# Altium schematic symbol library Crazy_PCB.SchLib: 117 symbols
Pins are listed as number, name and electrical type; pins without a type are passive.

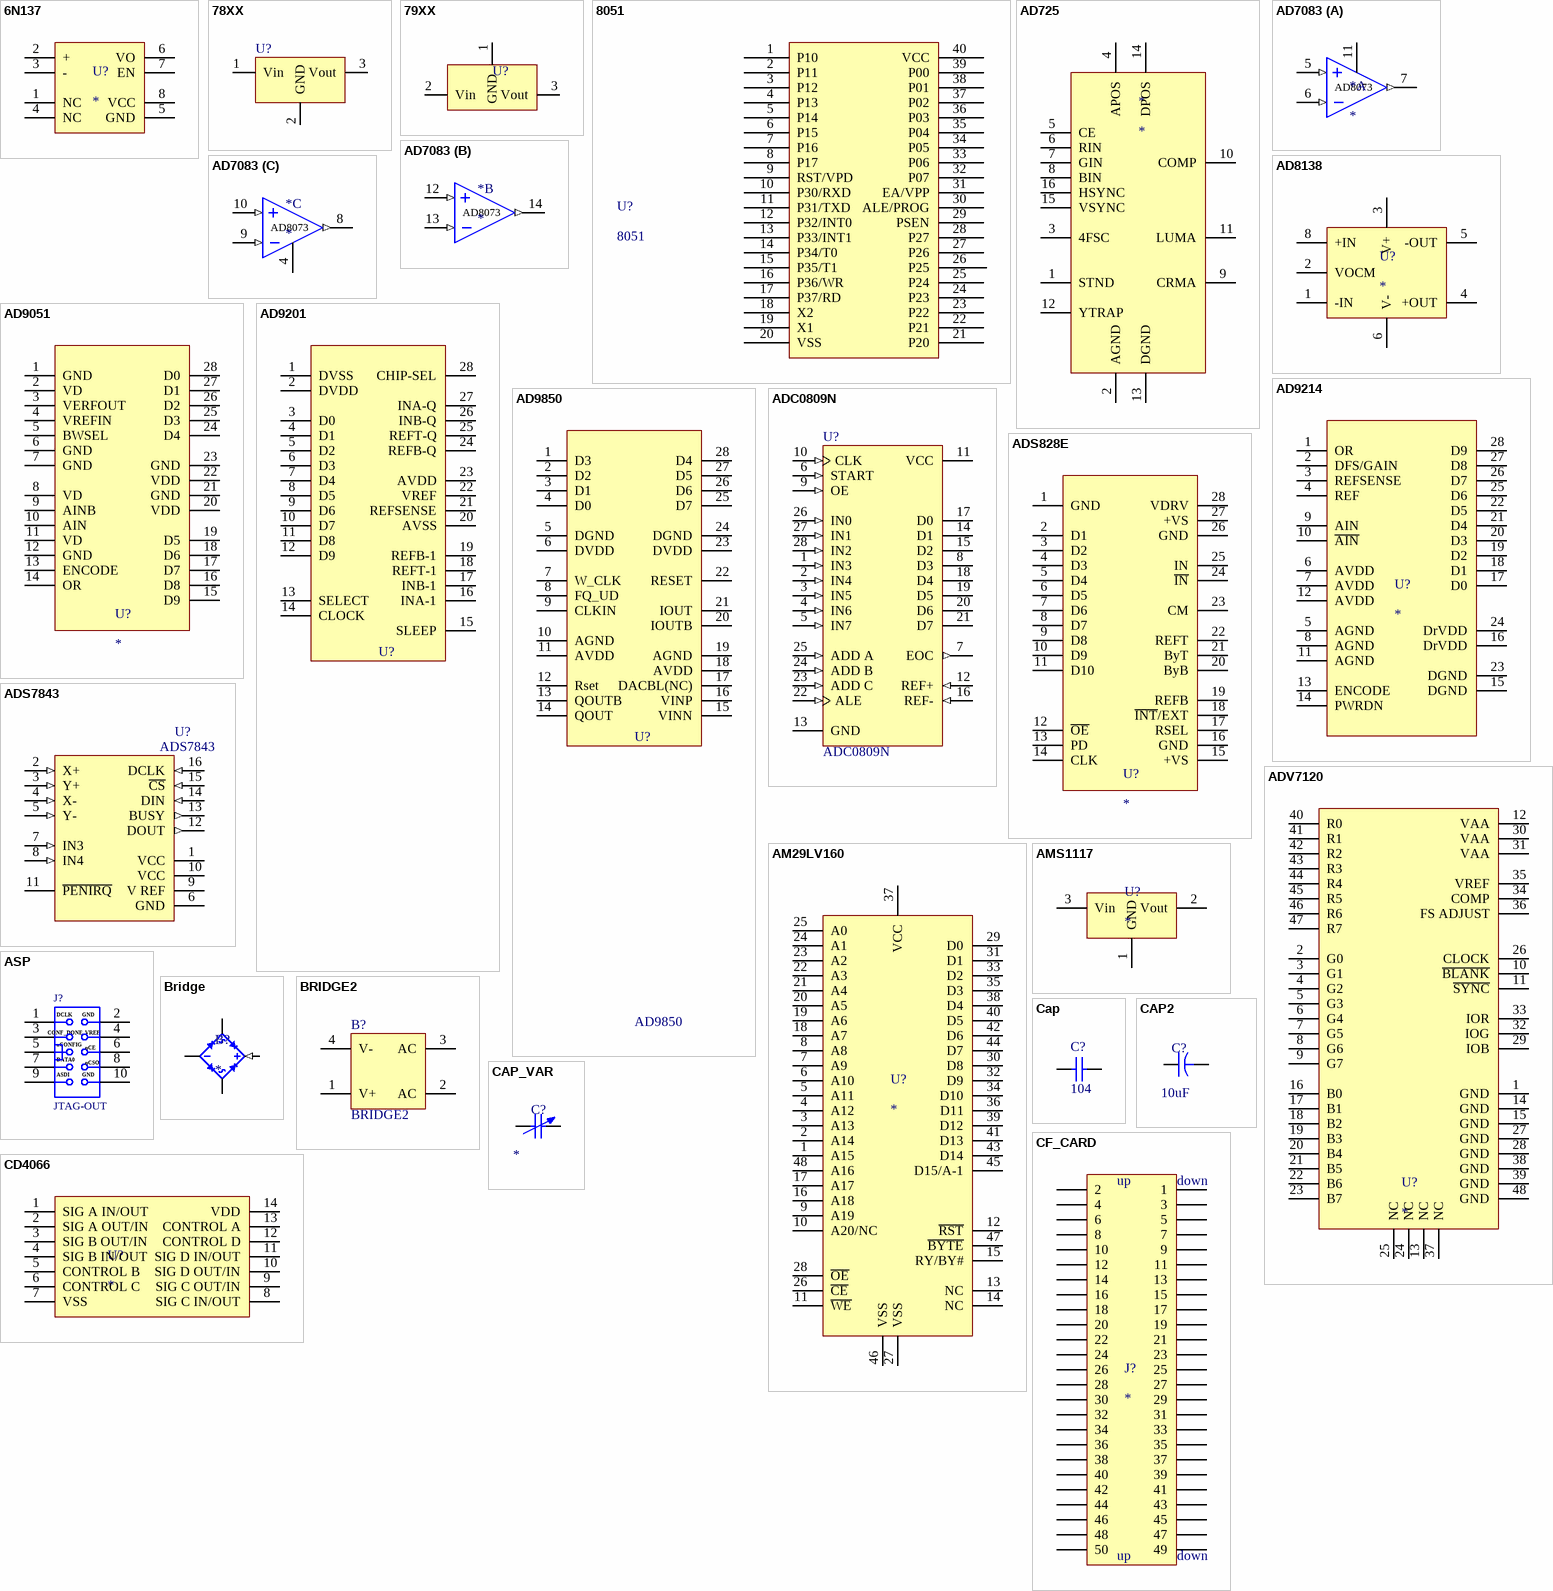
[diagram p0: symbols 6N137 to CF_CARD]

## 6N137
designator U?
footprint dip-8
pins: 1 NC, 2 +, 3 -, 4 NC, 5 GND, 6 VO, 7 EN, 8 VCC

## 78XX
designator U?  (value not drawn)
三端稳压器
footprint 78AND79XX
footprint TO-220
footprint LM_3
pins: 1 Vin, 2 GND, 3 Vout

## 79XX
designator U?  (value not drawn)
三端稳压器
footprint 78AND79XX
footprint LM_3
footprint TO-220
pins: 1 GND, 2 Vin, 3 Vout

## 8051
designator U?
MCU_P40
footprint 40P6_2 (Footprint not found)
footprint 40P6
pins: 1 P10, 2 P11, 3 P12, 4 P13, 5 P14, 6 P15, 7 P16, 8 P17, 9 RST/VPD, 10 P30/RXD, 11 P31/TXD, 12 P32/INT0, 13 P33/INT1, 14 P34/T0, 15 P35/T1, 16 P36/WR, 17 P37/RD, 18 X2, 19 X1, 20 VSS, 21 P20, 22 P21, 23 P22, 24 P23, 25 P24, 26 P25, 27 P26, 28 P27, 29 PSEN, 30 ALE/PROG, 31 EA/VPP, 32 P07, 33 P06, 34 P05, 35 P04, 36 P03, 37 P02, 38 P01, 39 P00, 40 VCC

## AD725
designator *
footprint soic16
pins: 1 STND, 2 AGND, 3 4FSC, 4 APOS, 5 CE, 6 RIN, 7 GIN, 8 BIN, 9 CRMA, 10 COMP, 11 LUMA, 12 YTRAP, 13 DGND, 14 DPOS, 15 VSYNC, 16 HSYNC

## AD7083
designator *
footprint SOIC14
part A pins: 5 +IN1 (in), 6 -IN1 (in), 7 OUT1 (out), 11 -VS (power)
part B pins: 12 +IN2 (in), 13 -IN2 (in), 14 OUT2 (out)
part C pins: 4 +VS (power), 8 OUT3 (out), 9 +IN3 (in), 10 +IN3 (in)
part A text: AD8073
part B text: AD8073
part C text: AD8073

## AD8138
designator U?
footprint r-8
pins: 1 -IN, 2 VOCM, 3 V+, 4 +OUT, 5 -OUT, 6 V-, 8 +IN

## AD9051
designator U?
footprint RS-28
pins: 1 GND, 2 VD, 3 VERFOUT, 4 VREFIN, 5 BWSEL, 6 GND, 7 GND, 8 VD, 9 AINB, 10 AIN, 11 VD, 12 GND, 13 ENCODE, 14 OR, 15 D9, 16 D8, 17 D7, 18 D6, 19 D5, 20 VDD, 21 GND, 22 VDD, 23 GND, 24 D4, 25 D3, 26 D2, 27 D1, 28 D0

## AD9201
designator U?
CMOS, 125MHz Complete DDS Synthesizer; Note: Pin 17 is unconnected for optimum performance; Published: 8-Jun-2000; LatestRevisionDate: 04-Mar-2005; LatestRevisionNote: Stylized 3D Model Added.; DatasheetVersion: Rev.A 1997; PackageVersion: revA, 1997; PackageReference: RS-28; Publisher: Altium Limited; PackageDescription: SSOP; 28 Leads; Body Width 5.3 mm; Pitch 0.65 mm; ComponentLink1Description: Manufacturer Link; ComponentLink1URL: http://www.analog.com/en/prod/0%2C2877%2CAD9850%2C00.html; ComponentLink2Description: Datasheet; ComponentLink2URL: http://www.analog.com/UploadedFiles/Data_Sheets/34008438159094AD9850_h.pdf
footprint RS-28
pins: 1 DVSS, 2 DVDD, 3 D0, 4 D1, 5 D2, 6 D3, 7 D4, 8 D5, 9 D6, 10 D7, 11 D8, 12 D9, 13 SELECT, 14 CLOCK, 15 SLEEP, 16 INA-1, 17 INB-1, 18 REFT-1, 19 REFB-1, 20 AVSS, 21 REFSENSE, 22 VREF, 23 AVDD, 24 REFB-Q, 25 REFT-Q, 26 INB-Q, 27 INA-Q, 28 CHIP-SEL

## AD9214
designator U?
footprint RS-28
pins: 1 OR, 2 DFS/GAIN, 3 REFSENSE, 4 REF, 5 AGND, 6 AVDD, 7 AVDD, 8 AGND, 9 AIN, 10 ~{AIN}, 11 AGND, 12 AVDD, 13 ENCODE, 14 PWRDN, 15 DGND, 16 DrVDD, 17 D0, 18 D1, 19 D2, 20 D3, 21 D4, 22 D5, 23 DGND, 24 DrVDD, 25 D6, 26 D7, 27 D8, 28 D9

## AD9850
designator U?
CMOS, 125MHz Complete DDS Synthesizer; Note: Pin 17 is unconnected for optimum performance; Published: 8-Jun-2000; LatestRevisionDate: 04-Mar-2005; LatestRevisionNote: Stylized 3D Model Added.; DatasheetVersion: Rev.A 1997; PackageVersion: revA, 1997; PackageReference: RS-28; Publisher: Altium Limited; PackageDescription: SSOP; 28 Leads; Body Width 5.3 mm; Pitch 0.65 mm; ComponentLink1Description: Manufacturer Link; ComponentLink1URL: http://www.analog.com/en/prod/0%2C2877%2CAD9850%2C00.html; ComponentLink2Description: Datasheet; ComponentLink2URL: http://www.analog.com/UploadedFiles/Data_Sheets/34008438159094AD9850_h.pdf
footprint ssop28
footprint rs-28
pins: 1 D3, 2 D2, 3 D1, 4 D0, 5 DGND, 6 DVDD, 7 W_CLK, 8 FQ_UD, 9 CLKIN, 10 AGND, 11 AVDD, 12 Rset, 13 QOUTB, 14 QOUT, 15 VINN, 16 VINP, 17 DACBL(NC), 18 AVDD, 19 AGND, 20 IOUTB, 21 IOUT, 22 RESET, 23 DVDD, 24 DGND, 25 D7, 26 D6, 27 D5, 28 D4

## ADC0809N
designator U?
CMOS Analog-to-Digital Converter with 8-Channel Multiplexer; ComponentAvailability: Obsolete; Published: 15-Apr-2002; LatestRevisionDate: 08-Jul-2005; LatestRevisionNote: Stylized 3D Model Added.; DatasheetVersion: May-1988; PackageVersion: Oct-1994; PackageReference: N028; Publisher: Altium Limited; PackageDescription: DIP; 28 Leads; Row Spacing 15.24 mm; Pitch 2.54 mm; ComponentLink1Description: Manufacturer Link; ComponentLink1URL: http://www.ti.com/
footprint N028 (DIP; 28 Leads; Row Spacing 15.24 mm; Pitch 2.54 mm)
3D model N028 (DIP; 28 Leads; Row Spacing 15.24 mm; Pitch 2.54 mm)
pins: 1 IN3 (in), 2 IN4 (in), 3 IN5 (in), 4 IN6 (in), 5 IN7 (in), 6 START (in), 7 EOC (out), 8 D3 (hiz), 9 OE (in), 10 CLK (in), 11 VCC (power), 12 REF+ (in), 13 GND (power), 14 D1 (hiz), 15 D2 (hiz), 16 REF- (in), 17 D0 (hiz), 18 D4 (hiz), 19 D5 (hiz), 20 D6 (hiz), 21 D7 (hiz), 22 ALE (in), 23 ADD C (in), 24 ADD B (in), 25 ADD A (in), 26 IN0 (in), 27 IN1 (in), 28 IN2 (in)

## ADS828E
designator U?
footprint RS-28
pins: 1 GND, 2 D1, 3 D2, 4 D3, 5 D4, 6 D5, 7 D6, 8 D7, 9 D8, 10 D9, 11 D10, 12 ~{OE}, 13 PD, 14 CLK, 15 +VS, 16 GND, 17 RSEL, 18 ~{INT}/EXT, 19 REFB, 20 ByB, 21 ByT, 22 REFT, 23 CM, 24 ~{IN}, 25 IN, 26 GND, 27 +VS, 28 VDRV

## ADS7843
designator U?
Touch Screen Controller
footprint TSSOP16
pins: 1 VCC, 2 X+ (in), 3 Y+ (in), 4 X- (in), 5 Y- (in), 6 GND (power), 7 IN3 (in), 8 IN4 (in), 9 V REF, 10 VCC, 11 ~{PENIRQ} (power), 12 DOUT (out), 13 BUSY (out), 14 DIN (in), 15 ~{CS} (in), 16 DCLK (in)

## ADV7120
designator U?
footprint tqfp48
pins: 1 GND, 2 G0, 3 G1, 4 G2, 5 G3, 6 G4, 7 G5, 8 G6, 9 G7, 10 ~{BLANK}, 11 ~{SYNC}, 12 VAA, 13 NC, 14 GND, 15 GND, 16 B0, 17 B1, 18 B2, 19 B3, 20 B4, 21 B5, 22 B6, 23 B7, 24 NC, 25 NC, 26 CLOCK, 27 GND, 28 GND, 29 IOB, 30 VAA, 31 VAA, 32 IOG, 33 IOR, 34 COMP, 35 VREF, 36 FS ADJUST, 37 NC, 38 GND, 39 GND, 40 R0, 41 R1, 42 R2, 43 R3, 44 R4, 45 R5, 46 R6, 47 R7, 48 GND

## AM29LV160
designator U?
footprint TSOP48
pins: 1 A15, 2 A14, 3 A13, 4 A12, 5 A11, 6 A10, 7 A9, 8 A8, 9 A19, 10 A20/NC, 11 ~{WE}, 12 ~{RST}, 13 NC, 14 NC, 15 RY/BY#, 16 A18, 17 A17, 18 A7, 19 A6, 20 A5, 21 A4, 22 A3, 23 A2, 24 A1, 25 A0, 26 ~{CE}, 27 VSS, 28 ~{OE}, 29 D0, 30 D8, 31 D1, 32 D9, 33 D2, 34 D10, 35 D3, 36 D11, 37 VCC, 38 D4, 39 D12, 40 D5, 41 D13, 42 D6, 43 D14, 44 D7, 45 D15/A-1, 46 VSS, 47 ~{BYTE}, 48 A16

## AMS1117
designator U?
3.3V电压转换器AMS1117
footprint SOT223 (SOT-223/SC-73; 4 Leads; Body 6.7 x 7.3 mm, inc. leads (LxW max))
pins: 1 GND, 2 Vout, 3 Vin

## ASP
designator J?, comment JTAG-OUT
接插件
footprint JTAG
pins: 1, 2, 3, 4, 5, 6, 7, 8, 9, 10
text: DCLK; GND; CONF_DONE; VREF; nCONFIG; nCE; DATA0; nCSO; ASDI

## Bridge
designator B?
footprint Bridge
pins: 1 + (in), 2 - (power), 3 AC (power), 4 AC (power)

## BRIDGE2
designator B?
Diode Bridge
footprint BRIDGE3a
footprint BRIDGE3A
pins: 1 V+, 2 AC, 3 AC, 4 V-
2 alternate drawings of the same symbol

## Cap
designator C?  value 104  (hidden comment: Cap)
Capacitor; Published: 8-Jun-2000; LatestRevisionDate: 17-Jul-2002; LatestRevisionNote: Re-released for DXP Platform.; PackageReference: RAD-0.3; Publisher: Altium Limited
footprint 0402 (Chip Capacitor; Body 1.0 x 0.5 mm (LxW typ))
footprint 0603_cap
footprint 0805_cap
pins: 1, 2

## CAP2
designator C?, comment vaule: 10uF  (hidden comment: CAP)
footprint CAP100
footprint 1000UF/16V
footprint 1812 (Chip Capacitor; Body 4.5 x 3.2 mm (LxW typ))
footprint cap220
footprint CAP470
footprint cap200_2
pins: 1, 2

## CAP_VAR
designator C?, comment cap  (value not drawn)
vaule: *
footprint CAP_VAR
pins: 1, 2

## CD4066
designator U?
footprint SOIC14
pins: 1 SIG A IN/OUT, 2 SIG A OUT/IN, 3 SIG B OUT/IN, 4 SIG B IN/OUT, 5 CONTROL B, 6 CONTROL C, 7 VSS, 8 SIG C IN/OUT, 9 SIG C OUT/IN, 10 SIG D OUT/IN, 11 SIG D IN/OUT, 12 CONTROL D, 13 CONTROL A, 14 VDD

## CF_CARD
designator J?
footprint CF_CARD
pins: 1, 2, 3, 4, 5, 6, 7, 8, 9, 10, 11, 12, 13, 14, 15, 16, 17, 18, 19, 20, 21, 22, 23, 24, 25, 26, 27, 28, 29, 30, 31, 32, 33, 34, 35, 36, 37, 38, 39, 40, 41, 42, 43, 44, 45, 46, 47, 48, 49, 50
text: up; down

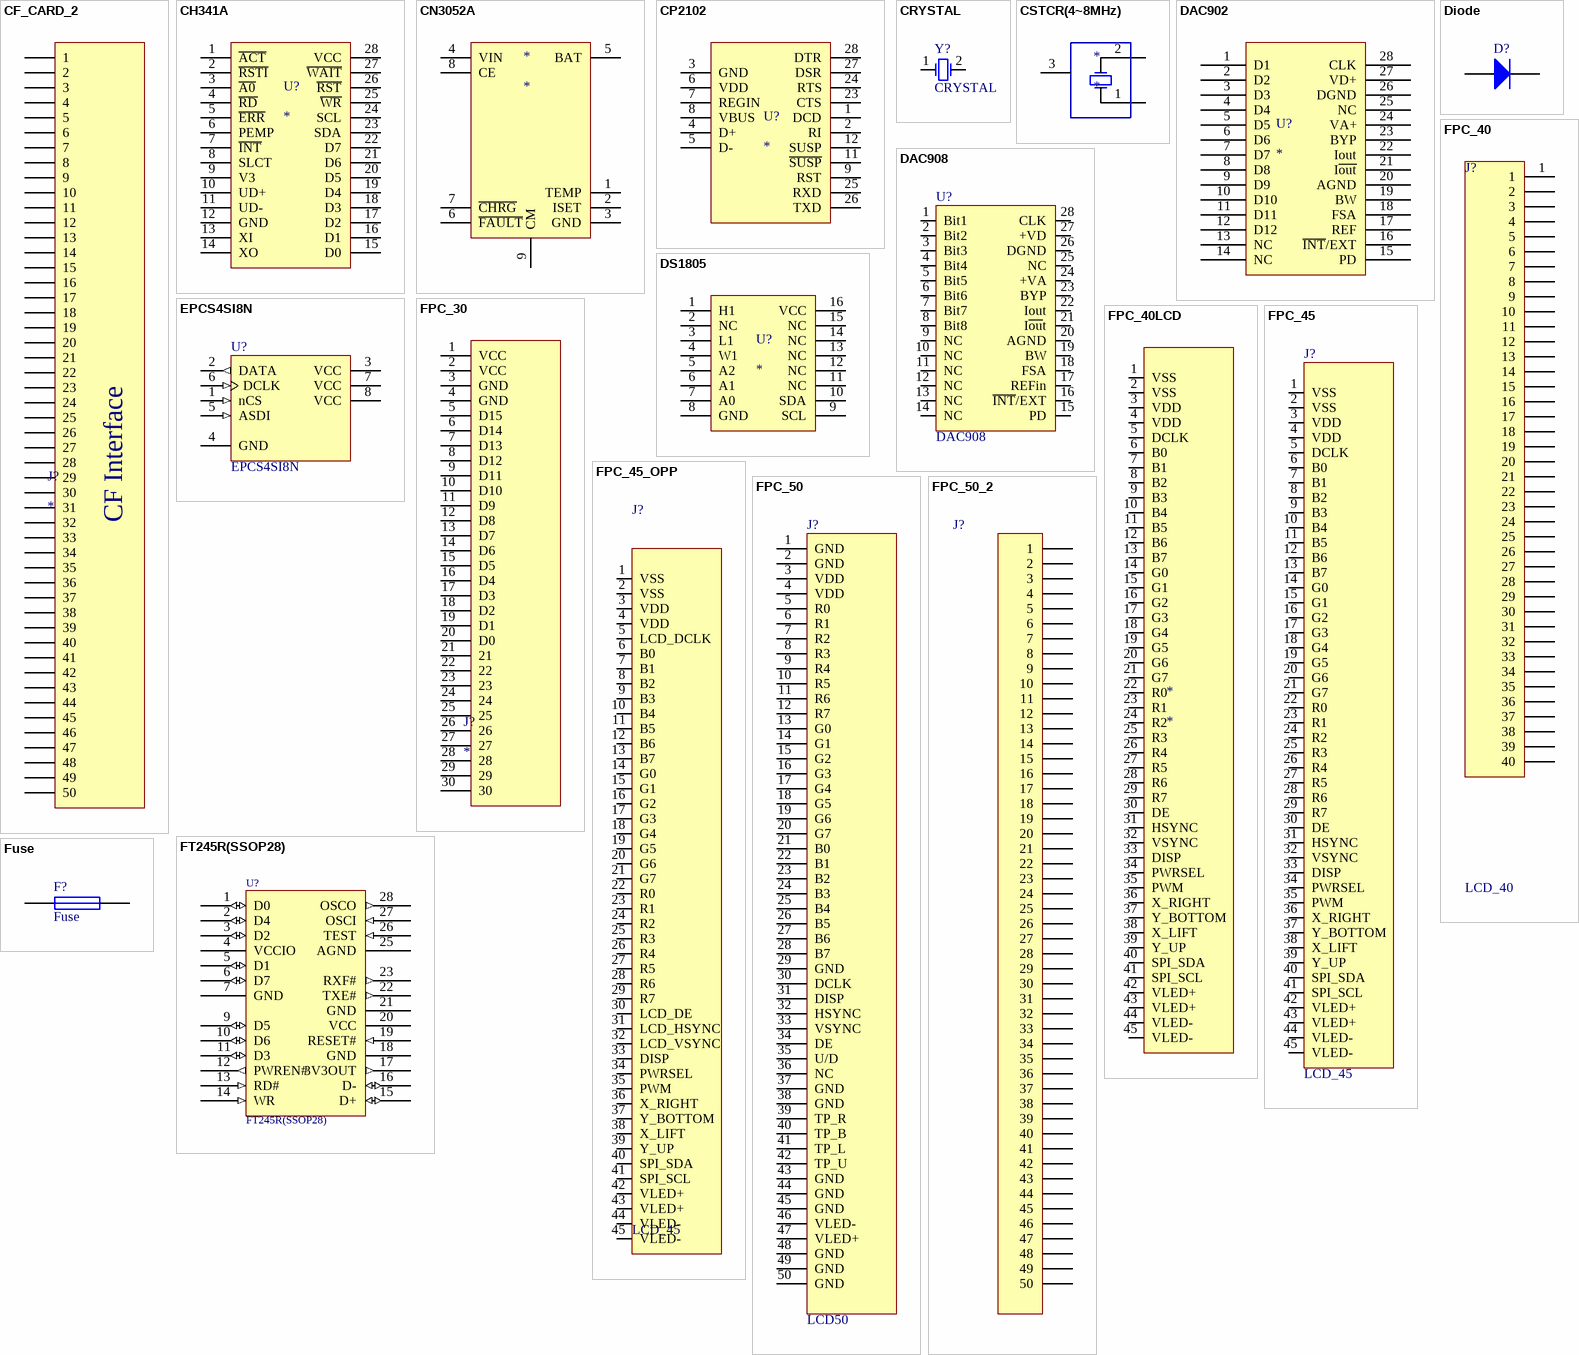
[diagram p1: symbols CF_CARD_2 to Fuse]

## CF_CARD_2
designator J?
footprint cf_card2
pins: 1, 2, 3, 4, 5, 6, 7, 8, 9, 10, 11, 12, 13, 14, 15, 16, 17, 18, 19, 20, 21, 22, 23, 24, 25, 26, 27, 28, 29, 30, 31, 32, 33, 34, 35, 36, 37, 38, 39, 40, 41, 42, 43, 44, 45, 46, 47, 48, 49, 50
text: CF Interface

## CH341A
designator U?
footprint SOP28
footprint SOP28
pins: 1 ~{ACT}, 2 ~{RSTI}, 3 ~{A0}, 4 ~{RD}, 5 ~{ERR}, 6 PEMP, 7 ~{INT}, 8 SLCT, 9 V3, 10 UD+, 11 UD-, 12 GND, 13 XI, 14 XO, 15 D0, 16 D1, 17 D2, 18 D3, 19 D4, 20 D5, 21 D6, 22 D7, 23 SDA, 24 SCL, 25 ~{WR}, 26 ~{RST}, 27 ~{WAIT}, 28 VCC

## CN3052A
designator *
footprint R-8_2
pins: 1 TEMP, 2 ISET, 3 GND, 4 VIN, 5 BAT, 6 ~{FAULT}, 7 ~{CHRG}, 8 CE, 9 CM

## CP2102
designator U?
footprint QFN28 (QFN, 28-Leads, Body 5.00x5.00mm, Pitch 0.50mm, Thermal Pad 3.13x3.13mm, IPC Medium Density)
pins: 1 DCD, 2 RI, 3 GND, 4 D+, 5 D-, 6 VDD, 7 REGIN, 8 VBUS, 9 RST, 11 ~{SUSP}, 12 SUSP, 23 CTS, 24 RTS, 25 RXD, 26 TXD, 27 DSR, 28 DTR

## CRYSTAL
designator Y?
Crystal Oscillator; Published: 8-Jun-2000; LatestRevisionDate: 17-Jul-2002; LatestRevisionNote: Re-released for DXP Platform.; PackageReference: R38; Publisher: Altium Limited
footprint CRYSTAL
pins: 1 OSC1, 2 OSC2

## CSTCR(4~8MHz)
designator *
footprint CSTCR (CSTCR(4~8MHz))
pins: 1 OSC1, 2 OSC2, 3 GND

## DAC902
designator U?
footprint soic28
footprint dac90x (SOP, 28-Leads, Body 9.7x4.4mm (max), Pitch 0.65mm, IPC Medium Density)
pins: 1 D1, 2 D2, 3 D3, 4 D4, 5 D5, 6 D6, 7 D7, 8 D8, 9 D9, 10 D10, 11 D11, 12 D12, 13 NC, 14 NC, 15 PD, 16 ~{INT}/EXT, 17 REF, 18 FSA, 19 BW, 20 AGND, 21 I~{out}, 22 Iout, 23 BYP, 24 VA+, 25 NC, 26 DGND, 27 VD+, 28 CLK

## DAC908
designator U?
footprint DAC90X
pins: 1 Bit1, 2 Bit2, 3 Bit3, 4 Bit4, 5 Bit5, 6 Bit6, 7 Bit7, 8 Bit8, 9 NC, 10 NC, 11 NC, 12 NC, 13 NC, 14 NC, 15 PD, 16 ~{INT}/EXT, 17 REFin, 18 FSA, 19 BW, 20 AGND, 21 I~{ou}t, 22 Iout, 23 BYP, 24 +VA, 25 NC, 26 DGND, 27 +VD, 28 CLK

## Diode
designator D?
High Conductance Fast Diode; Published: 8-Jun-2000; LatestRevisionDate: 17-Jul-2002; LatestRevisionNote: Re-released for DXP Platform.; DatasheetDocument: 1997; PackageReference: DO-35; Publisher: Altium Limited; Code_JEDEC: DO-204-AH; ComponentLink1Description: Manufacturer Link; ComponentLink1URL: http://www.fairchildsemi.com/; ComponentLink2Description: Datasheet; ComponentLink2URL: http://www.fairchildsemi.com/ds/1N%2F1N4448.pdf
footprint Diode (Chip Resistor; Body 5.0 x 2.5 mm (LxW typ))
footprint IN5822
footprint IN58XX
pins: 1 A, 2 K

## DS1805
designator U?
footprint sop16_2
pins: 1 H1, 2 NC, 3 L1, 4 W1, 5 A2, 6 A1, 7 A0, 8 GND, 9 SCL, 10 SDA, 11 NC, 12 NC, 13 NC, 14 NC, 15 NC, 16 VCC

## EPCS4SI8N
designator U?
EPCS4 Series, In-system programmable 3.3V serial configuration device, 8-Pin SOIC, 4-Megabit, Industrial Grade, Pb-Free; Configures: Cyclone II, Stratix II, & Cyclone Devices; Published: 4-Mar-2005; LatestRevisionDate: 13-Apr-2006; LatestRevisionNote: IPC-7351 Footprint Added.; DatasheetVersion: ver2.0, Oct-2003; PackageVersion: ver13.0, May-2005; PackageReference: SOIC8; Publisher: Altium Limited; PackageDescription: 8-Pin Small Outline Integrated Circuit Package (SOIC8); Code_JEDEC: MS-012-AA; Code_IPC: SOIC127P600-8; ComponentLink1Description: Manufacturer Link; ComponentLink1URL: http://www.altera.com/products/devices/config/cfg-index.html; ComponentLink2Description: Configuration Handbook; ComponentLink2URL: http://www.altera.com/literature/hb/cfg/config_handbook.pdf; ComponentLink3Description: Pinout Specification; ComponentLink3URL: http://www.altera.com/literature/hb/cfg/cyc_c51014.pdf; ComponentLink4Description: Packaging Specification; ComponentLink4URL: http://www.altera.com/literature/ds/dspkg.pdf
footprint SOIC8_N (SOIC, 8-Leads, Body 4.9x3.9mm, Pitch 1.27mm, IPC Medium Density)
footprint SOIC8_L (SOIC, 8-Leads, Body 4.9x3.9mm, Pitch 1.27mm, IPC High Density)
footprint SOIC8_M (SOIC, 8-Leads, Body 4.9x3.9mm, Pitch 1.27mm, IPC Low Density)
3D model SOIC8 (8-Pin Small Outline Integrated Circuit Package (SOIC8))
pins: 1 nCS (in) "Active low, chip select input", 2 DATA (out) "Serial data out", 3 VCC (power) "3.3V supply", 4 GND (power) "Ground", 5 ASDI (in) "AS data in", 6 DCLK (in) "Provides timing of the serial interface", 7 VCC (power) "3.3V supply", 8 VCC (power) "3.3V supply"

## FPC_30
designator J?
footprint FPC_30
pins: 1 VCC, 2 VCC, 3 GND, 4 GND, 5 D15, 6 D14, 7 D13, 8 D12, 9 D11, 10 D10, 11 D9, 12 D8, 13 D7, 14 D6, 15 D5, 16 D4, 17 D3, 18 D2, 19 D1, 20 D0, 21, 22, 23, 24, 25, 26, 27, 28, 29, 30

## FPC_40
designator J?, comment LCD_40
footprint FPC_40
pins: 1, 2, 3, 4, 5, 6, 7, 8, 9, 10, 11, 12, 13, 14, 15, 16, 17, 18, 19, 20, 21, 22, 23, 24, 25, 26, 27, 28, 29, 30, 31, 32, 33, 34, 35, 36, 37, 38, 39, 40

## FPC_40LCD
designator *
footprint FPC_40
pins: 1 VSS, 2 VSS, 3 VDD, 4 VDD, 5 DCLK, 6 B0, 7 B1, 8 B2, 9 B3, 10 B4, 11 B5, 12 B6, 13 B7, 14 G0, 15 G1, 16 G2, 17 G3, 18 G4, 19 G5, 20 G6, 21 G7, 22 R0, 23 R1, 24 R2, 25 R3, 26 R4, 27 R5, 28 R6, 29 R7, 30 DE, 31 HSYNC, 32 VSYNC, 33 DISP, 34 PWRSEL, 35 PWM, 36 X_RIGHT, 37 Y_BOTTOM, 38 X_LIFT, 39 Y_UP, 40 SPI_SDA, 41 SPI_SCL, 42 VLED+, 43 VLED+, 44 VLED-, 45 VLED-

## FPC_45
designator J?, comment LCD_45
footprint FPC_45
pins: 1 VSS, 2 VSS, 3 VDD, 4 VDD, 5 DCLK, 6 B0, 7 B1, 8 B2, 9 B3, 10 B4, 11 B5, 12 B6, 13 B7, 14 G0, 15 G1, 16 G2, 17 G3, 18 G4, 19 G5, 20 G6, 21 G7, 22 R0, 23 R1, 24 R2, 25 R3, 26 R4, 27 R5, 28 R6, 29 R7, 30 DE, 31 HSYNC, 32 VSYNC, 33 DISP, 34 PWRSEL, 35 PWM, 36 X_RIGHT, 37 Y_BOTTOM, 38 X_LIFT, 39 Y_UP, 40 SPI_SDA, 41 SPI_SCL, 42 VLED+, 43 VLED+, 44 VLED-, 45 VLED-

## FPC_45_OPP
designator J?, comment LCD_45
footprint FPC_45_OPP
pins: 1 VSS, 2 VSS, 3 VDD, 4 VDD, 5 LCD_DCLK, 6 B0, 7 B1, 8 B2, 9 B3, 10 B4, 11 B5, 12 B6, 13 B7, 14 G0, 15 G1, 16 G2, 17 G3, 18 G4, 19 G5, 20 G6, 21 G7, 22 R0, 23 R1, 24 R2, 25 R3, 26 R4, 27 R5, 28 R6, 29 R7, 30 LCD_DE, 31 LCD_HSYNC, 32 LCD_VSYNC, 33 DISP, 34 PWRSEL, 35 PWM, 36 X_RIGHT, 37 Y_BOTTOM, 38 X_LIFT, 39 Y_UP, 40 SPI_SDA, 41 SPI_SCL, 42 VLED+, 43 VLED+, 44 VLED-, 45 VLED-

## FPC_50
designator J?, comment LCD50
A043FL01
footprint FPC_50
pins: 1 GND, 2 GND, 3 VDD, 4 VDD, 5 R0, 6 R1, 7 R2, 8 R3, 9 R4, 10 R5, 11 R6, 12 R7, 13 G0, 14 G1, 15 G2, 16 G3, 17 G4, 18 G5, 19 G6, 20 G7, 21 B0, 22 B1, 23 B2, 24 B3, 25 B4, 26 B5, 27 B6, 28 B7, 29 GND, 30 DCLK, 31 DISP, 32 HSYNC, 33 VSYNC, 34 DE, 35 U/D, 36 NC, 37 GND, 38 GND, 39 TP_R, 40 TP_B, 41 TP_L, 42 TP_U, 43 GND, 44 GND, 45 GND, 46 VLED-, 47 VLED+, 48 GND, 49 GND, 50 GND

## FPC_50_2
designator J?
footprint FPC_50
pins: 1, 2, 3, 4, 5, 6, 7, 8, 9, 10, 11, 12, 13, 14, 15, 16, 17, 18, 19, 20, 21, 22, 23, 24, 25, 26, 27, 28, 29, 30, 31, 32, 33, 34, 35, 36, 37, 38, 39, 40, 41, 42, 43, 44, 45, 46, 47, 48, 49, 50

## FT245R(SSOP28)
designator U?
USB转并口
footprint SSOP28
pins: 1 D0 (io), 2 D4 (io), 3 D2 (io), 4 VCCIO (power), 5 D1 (io), 6 D7 (io), 7 GND (power), 8 NC hidden, 9 D5 (io), 10 D6 (io), 11 D3 (io), 12 PWREN# (out), 13 RD# (in), 14 WR (in), 15 D+ (io), 16 D- (io), 17 3V3OUT (out), 18 GND (power), 19 RESET# (in), 20 VCC (power), 21 GND (power), 22 TXE# (out), 23 RXF# (out), 24 NC hidden, 25 AGND (power), 26 TEST (in), 27 OSCI (in), 28 OSCO (out)

## Fuse
designator F?
Published: 8-Jun-2000; LatestRevisionDate: 17-Jul-2002; LatestRevisionNote: Re-released for DXP Platform.; PackageReference: PIN-W2/E2.8; Publisher: Altium Limited
simulation model FUSE (Spice Subcircuit)
footprint fuse
pins: 1, 2

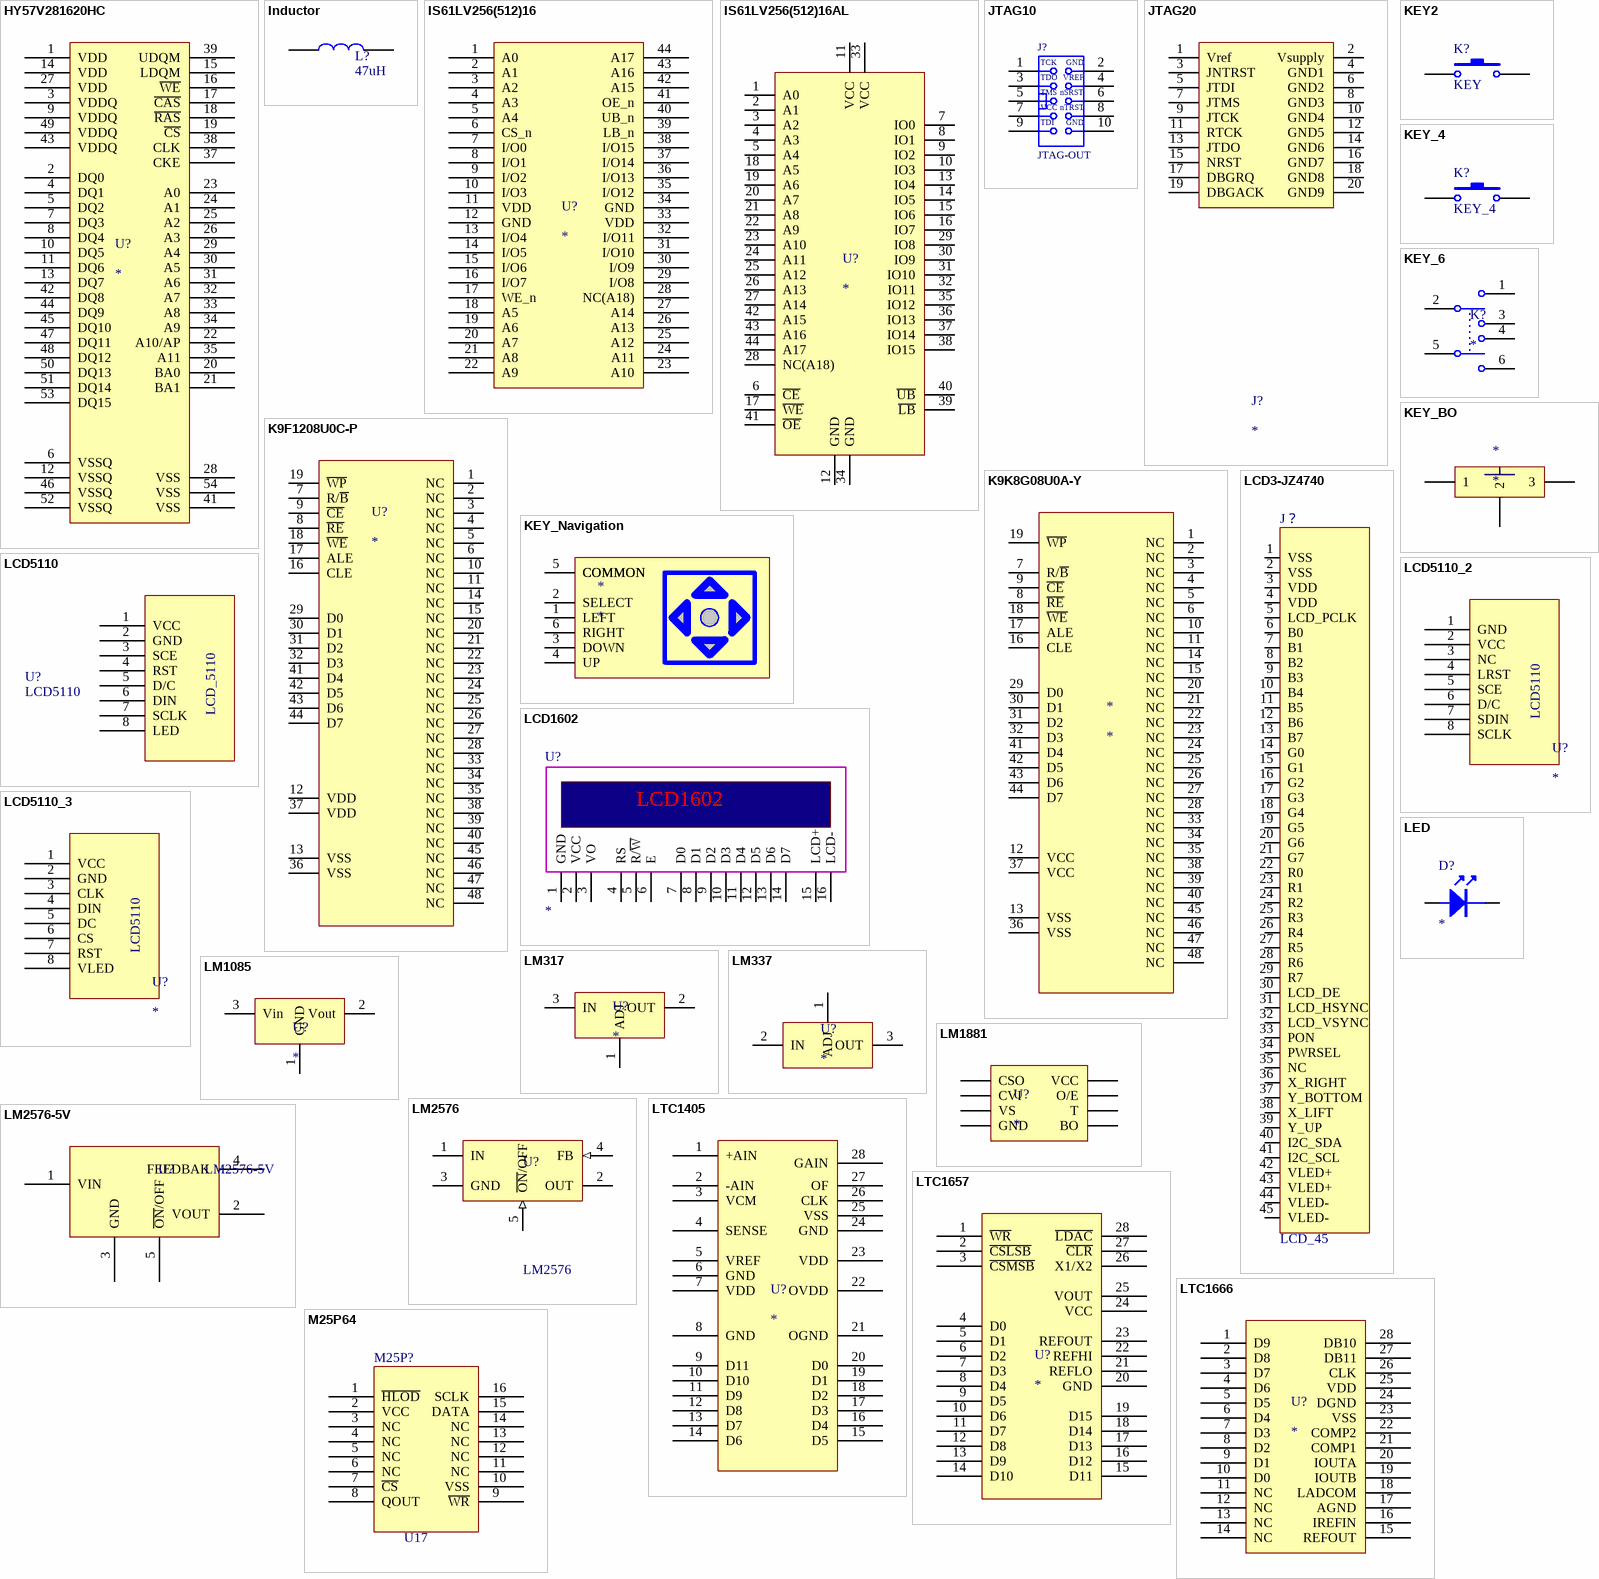
[diagram p2: symbols HY57V281620HC to M25P64]

## HY57V281620HC
designator U?
footprint HY57V281620HC
pins: 1 VDD, 2 DQ0, 3 VDDQ, 4 DQ1, 5 DQ2, 6 VSSQ, 7 DQ3, 8 DQ4, 9 VDDQ, 10 DQ5, 11 DQ6, 12 VSSQ, 13 DQ7, 14 VDD, 15 LDQM, 16 ~{WE}, 17 ~{CAS}, 18 ~{RAS}, 19 ~{CS}, 20 BA0, 21 BA1, 22 A10/AP, 23 A0, 24 A1, 25 A2, 26 A3, 27 VDD, 28 VSS, 29 A4, 30 A5, 31 A6, 32 A7, 33 A8, 34 A9, 35 A11, 37 CKE, 38 CLK, 39 UDQM, 41 VSS, 42 DQ8, 43 VDDQ, 44 DQ9, 45 DQ10, 46 VSSQ, 47 DQ11, 48 DQ12, 49 VDDQ, 50 DQ13, 51 DQ14, 52 VSSQ, 53 DQ15, 54 VSS

## Inductor
designator L?, comment 47uH
footprint L1
footprint L2
footprint 0805_L (Inductor)
pins: 1, 2

## IS61LV256(512)16
designator U?
SRAM
footprint TSOP44 (贴片)
pins: 1 A0, 2 A1, 3 A2, 4 A3, 5 A4, 6 CS_n, 7 I/O0, 8 I/O1, 9 I/O2, 10 I/O3, 11 VDD, 12 GND, 13 I/O4, 14 I/O5, 15 I/O6, 16 I/O7, 17 WE_n, 18 A5, 19 A6, 20 A7, 21 A8, 22 A9, 23 A10, 24 A11, 25 A12, 26 A13, 27 A14, 28 NC(A18), 29 I/O8, 30 I/O9, 31 I/O10, 32 I/O11, 33 VDD, 34 GND, 35 I/O12, 36 I/O13, 37 I/O14, 38 I/O15, 39 LB_n, 40 UB_n, 41 OE_n, 42 A15, 43 A16, 44 A17

## IS61LV256(512)16AL
designator U?
footprint TSOP44 (贴片)
pins: 1 A0, 2 A1, 3 A2, 4 A3, 5 A4, 6 ~{CE}, 7 IO0, 8 IO1, 9 IO2, 10 IO3, 11 VCC, 12 GND, 13 IO4, 14 IO5, 15 IO6, 16 IO7, 17 ~{WE}, 18 A5, 19 A6, 20 A7, 21 A8, 22 A9, 23 A10, 24 A11, 25 A12, 26 A13, 27 A14, 28 NC(A18), 29 IO8, 30 IO9, 31 IO10, 32 IO11, 33 VCC, 34 GND, 35 IO12, 36 IO13, 37 IO14, 38 IO15, 39 ~{LB}, 40 ~{UB}, 41 ~{OE}, 42 A15, 43 A16, 44 A17

## JTAG10
designator J?, comment JTAG-OUT
接插件
footprint jtag_10
pins: 1, 2, 3, 4, 5, 6, 7, 8, 9, 10
text: TCK; GND; TDO; VREF; TMS; nSRST; VCC; nTRST; TDI

## JTAG20
designator J?
接插件
footprint JTAG20_2
footprint JTAG20
pins: 1 Vref, 2 Vsupply, 3 JNTRST, 4 GND1, 5 JTDI, 6 GND2, 7 JTMS, 8 GND3, 9 JTCK, 10 GND4, 11 RTCK, 12 GND5, 13 JTDO, 14 GND6, 15 NRST, 16 GND7, 17 DBGRQ, 18 GND8, 19 DBGACK, 20 GND9

## K9F1208U0C-P
designator U?
footprint TSOP48
pins: 1 NC, 2 NC, 3 NC, 4 NC, 5 NC, 6 NC, 7 R/~{B}, 8 ~{RE}, 9 ~{CE}, 10 NC, 11 NC, 12 VDD, 13 VSS, 14 NC, 15 NC, 16 CLE, 17 ALE, 18 ~{WE}, 19 ~{WP}, 20 NC, 21 NC, 22 NC, 23 NC, 24 NC, 25 NC, 26 NC, 27 NC, 28 NC, 29 D0, 30 D1, 31 D2, 32 D3, 33 NC, 34 NC, 35 NC, 36 VSS, 37 VDD, 38 NC, 39 NC, 40 NC, 41 D4, 42 D5, 43 D6, 44 D7, 45 NC, 46 NC, 47 NC, 48 NC

## K9K8G08U0A-Y
designator *
footprint TSOP48
pins: 1 NC, 2 NC, 3 NC, 4 NC, 5 NC, 6 NC, 7 R/~{B}, 8 ~{RE}, 9 ~{CE}, 10 NC, 11 NC, 12 VCC, 13 VSS, 14 NC, 15 NC, 16 CLE, 17 ALE, 18 ~{WE}, 19 ~{WP}, 20 NC, 21 NC, 22 NC, 23 NC, 24 NC, 25 NC, 26 NC, 27 NC, 28 NC, 29 D0, 30 D1, 31 D2, 32 D3, 33 NC, 34 NC, 35 NC, 36 VSS, 37 VCC, 38 NC, 39 NC, 40 NC, 41 D4, 42 D5, 43 D6, 44 D7, 45 NC, 46 NC, 47 NC, 48 NC

## KEY2
designator K?, comment KEY
Switch; Published: 24-Mar-1999; LatestRevisionDate: 17-Jul-2002; LatestRevisionNote: Re-released for DXP Platform.; PackageReference: SPST-2; Publisher: Altium Limited
footprint KEY2
footprint KEY2
pins: 1, 2

## KEY_4
designator K?
Switch; Published: 24-Mar-1999; LatestRevisionDate: 17-Jul-2002; LatestRevisionNote: Re-released for DXP Platform.; PackageReference: SPST-2; Publisher: Altium Limited
footprint KEY_4
footprint BUTTON
footprint KEY_SMD (Footprint not found)
pins: 1, 2

## KEY_6
designator K?
footprint KEY_6
pins: 1, 2 1, 3, 4, 5, 6

## KEY_BO
designator *
footprint key_bo (one of two)
pins: 1, 2, 3

## KEY_Navigation
designator *
footprint KEY_Navigation
pins: 1 LEFT, 2 SELECT, 3 DOWN, 4 UP, 5 COMMON, 6 RIGHT, 7 COMMON, 8 COMMON

## LCD3-JZ4740
designator J？, comment LCD_45
footprint FPC-4505
pins: 1 VSS, 2 VSS, 3 VDD, 4 VDD, 5 LCD_PCLK, 6 B0, 7 B1, 8 B2, 9 B3, 10 B4, 11 B5, 12 B6, 13 B7, 14 G0, 15 G1, 16 G2, 17 G3, 18 G4, 19 G5, 20 G6, 21 G7, 22 R0, 23 R1, 24 R2, 25 R3, 26 R4, 27 R5, 28 R6, 29 R7, 30 LCD_DE, 31 LCD_HSYNC, 32 LCD_VSYNC, 33 PON, 34 PWRSEL, 35 NC, 36 X_RIGHT, 37 Y_BOTTOM, 38 X_LIFT, 39 Y_UP, 40 I2C_SDA, 41 I2C_SCL, 42 VLED+, 43 VLED+, 44 VLED-, 45 VLED-

## LCD1602
designator U?
footprint 1602
pins: 1 GND, 2 VCC, 3 VO, 4 RS, 5 R/~{W}, 6 E, 7 D0, 8 D1, 9 D2, 10 D3, 11 D4, 12 D5, 13 D6, 14 D7, 15 LCD+, 16 LCD-

## LCD5110
designator U?
footprint LCD5110
pins: 1 VCC, 2 GND, 3 SCE, 4 RST, 5 D/C, 6 DIN, 7 SCLK, 8 LED
text: LCD_5110

## LCD5110_2
designator U?
footprint LCD5110_2
pins: 1 GND, 2 VCC, 3 NC, 4 LRST, 5 SCE, 6 D/C, 7 SDIN, 8 SCLK
text: LCD5110

## LCD5110_3
designator U?
footprint LCD5110_2
pins: 1 VCC, 2 GND, 3 CLK, 4 DIN, 5 DC, 6 CS, 7 RST, 8 VLED
text: LCD5110

## LED
designator D?
LED 发光二极管
footprint LED
footprint 0805_LED
footprint led_2
pins: 1 A, 2 K

## LM317
designator U?
footprint 78AND79XX
pins: 1 ADJ, 2 OUT, 3 IN

## LM337
designator U?
footprint 78AND79XX
pins: 1 ADJ, 2 IN, 3 OUT

## LM1085
designator U?
footprint LM_3
footprint LM1085
pins: 1 GND, 2 Vout, 3 Vin

## LM1881
designator U?
footprint dip-8
pins: 1 CSO, 2 CVI, 3 VS, 4 GND, 5 BO, 6 T, 7 O/E, 8 VCC

## LM2576
designator U?
Simple Switcher 3A Step Down Voltage Regulator; Note: Tab is connected to GND; Published: 15-Apr-2002; Datasheet: Latest Revision: Jun-1999; Package Reference: TS5B; Publisher: Altium Limited
footprint TO263-5 (5-Lead TO-263 (S), (National TS5B))
footprint LM2576
pins: 1 IN (power), 2 OUT (power), 3 GND (power), 4 FB (in), 5 ~{ON}/OFF (in)

## LM2576-5V
designator U?
Connector
footprint TO-220-5S
pins: 1 VIN, 2 VOUT, 3 GND, 4 FEEDBAK, 5 ~{ON}/OFF

## LTC1405
designator U?
footprint SSOP28
pins: 1 +AIN, 2 -AIN, 3 VCM, 4 SENSE, 5 VREF, 6 GND, 7 VDD, 8 GND, 9 D11, 10 D10, 11 D9, 12 D8, 13 D7, 14 D6, 15 D5, 16 D4, 17 D3, 18 D2, 19 D1, 20 D0, 21 OGND, 22 OVDD, 23 VDD, 24 GND, 25 VSS, 26 CLK, 27 OF, 28 GAIN

## LTC1657
designator U?
footprint SSOP28
pins: 1 ~{WR}, 2 ~{CSLSB}, 3 ~{CSMSB}, 4 D0, 5 D1, 6 D2, 7 D3, 8 D4, 9 D5, 10 D6, 11 D7, 12 D8, 13 D9, 14 D10, 15 D11, 16 D12, 17 D13, 18 D14, 19 D15, 20 GND, 21 REFLO, 22 REFHI, 23 REFOUT, 24 VCC, 25 VOUT, 26 X1/X2, 27 ~{CLR}, 28 ~{LDAC}

## LTC1666
designator U?
footprint ssop28
pins: 1 D9, 2 D8, 3 D7, 4 D6, 5 D5, 6 D4, 7 D3, 8 D2, 9 D1, 10 D0, 11 NC, 12 NC, 13 NC, 14 NC, 15 REFOUT, 16 IREFIN, 17 AGND, 18 LADCOM, 19 IOUTB, 20 IOUTA, 21 COMP1, 22 COMP2, 23 VSS, 24 DGND, 25 VDD, 26 CLK, 27 DB11, 28 DB10

## M25P64
designator M25P?, comment U17
footprint SO16
pins: 1 ~{HLOD}, 2 VCC, 3 NC, 4 NC, 5 NC, 6 NC, 7 ~{CS}, 8 QOUT, 9 ~{WR}, 10 VSS, 11 NC, 12 NC, 13 NC, 14 NC, 15 DATA, 16 SCLK

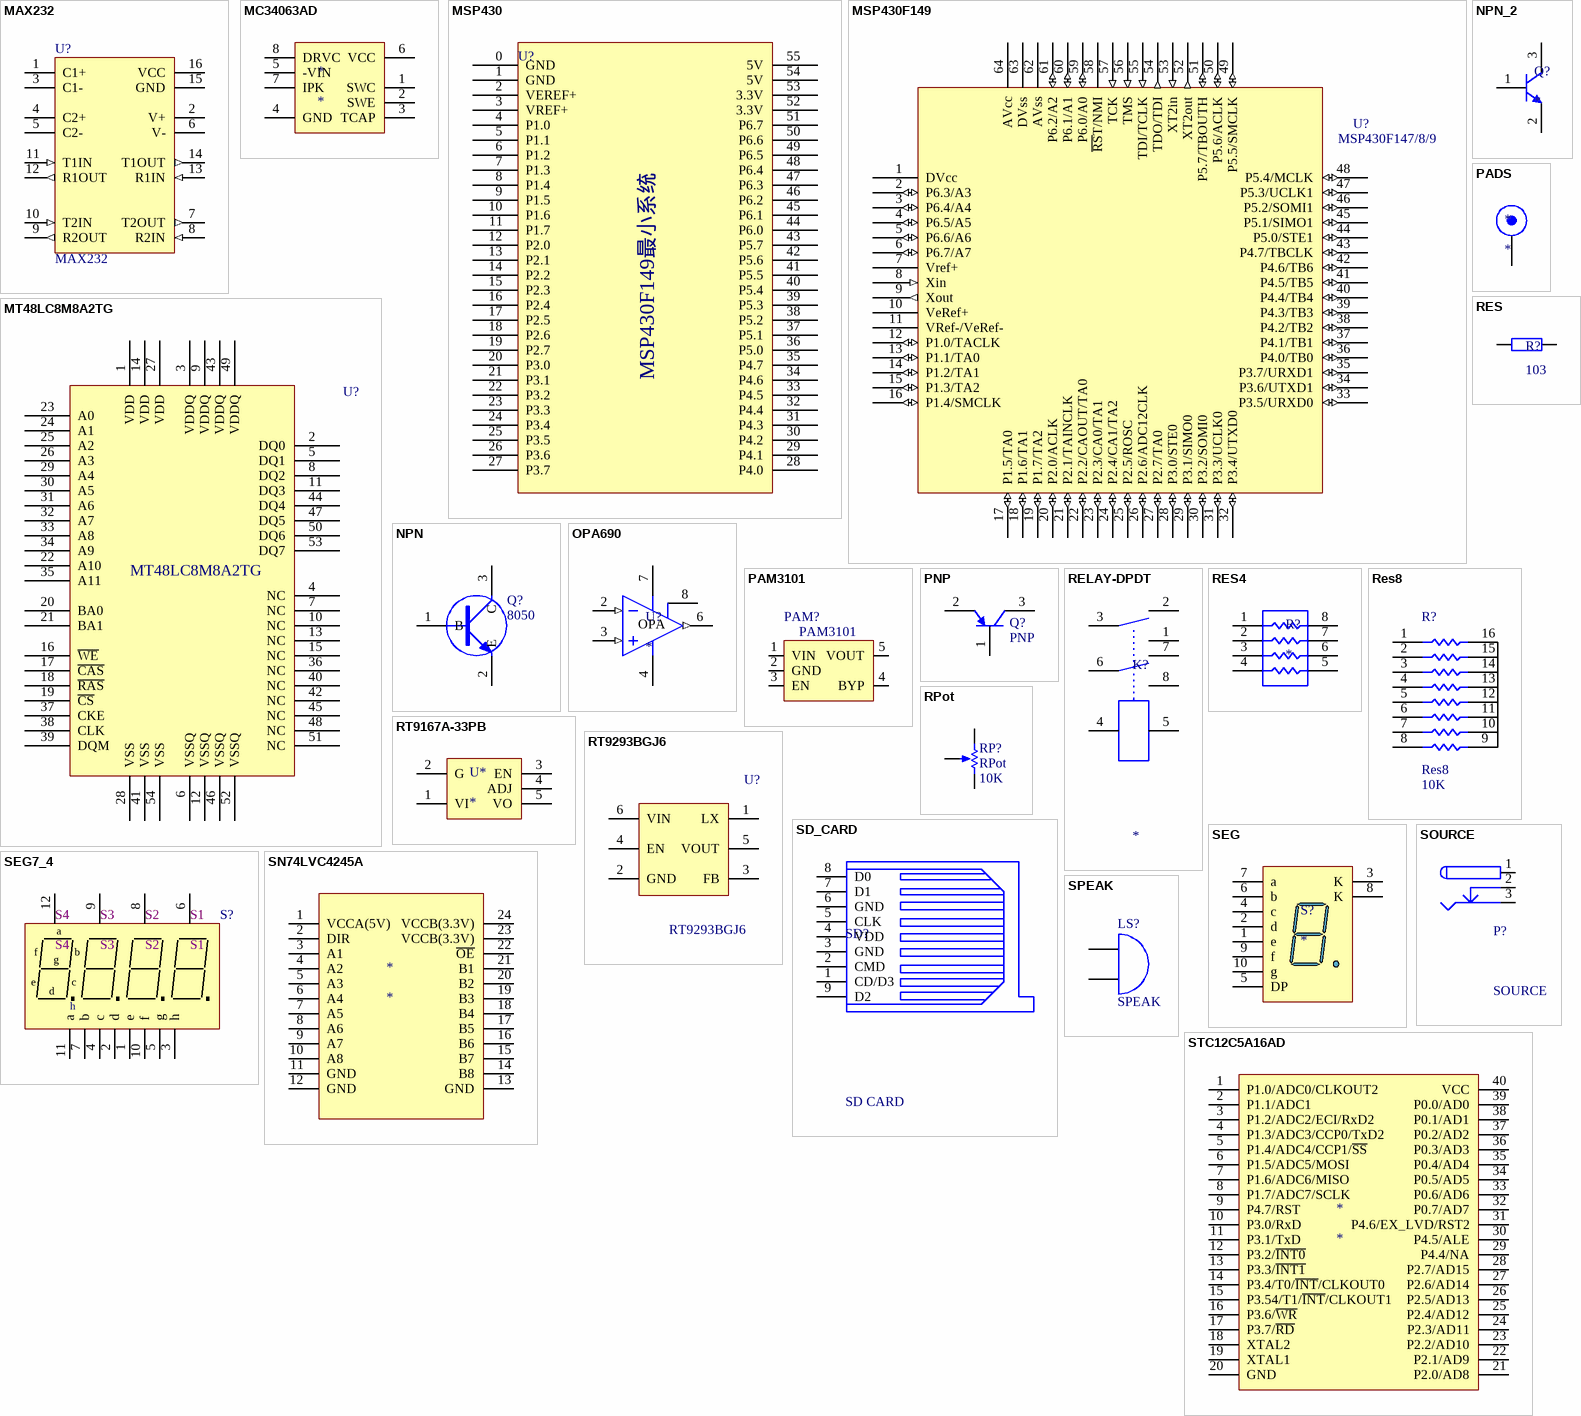
[diagram p3: symbols MAX232 to STC12C5A16AD]

## MAX232
designator U?
+5V Powered, Multi-Channel RS-232 Driver/Receiver; Published: 16-Jan-2001; LatestRevisionDate: 13-Apr-2006; LatestRevisionNote: IPC-7351 Footprint Added.; PackageReference: NSO16; Publisher: Altium Limited; PackageDescription: 16-Pin Small Outline Integrated Circuit 1.27 mm Pitch; Code_JEDEC: MS-012-AC; Code_IPC: SOIC127P600-16; ComponentLink1Description: Manufacturer Link; ComponentLink1URL: http://www.maxim-ic.com/; ComponentLink2Description: Datasheet; ComponentLink2URL: http://pdfserv.maxim-ic.com/en/ds/MAX220-MAX249.pdf
footprint NSO16_N
pins: 1 C1+, 2 V+ (power), 3 C1-, 4 C2+, 5 C2-, 6 V- (power), 7 T2OUT (out), 8 R2IN (in), 9 R2OUT (out), 10 T2IN (in), 11 T1IN (in), 12 R1OUT (out), 13 R1IN (in), 14 T1OUT (out), 15 GND (power), 16 VCC (power)

## MC34063AD
designator *
footprint SO-8
pins: 1 SWC, 2 SWE, 3 TCAP, 4 GND, 5 -VIN, 6 VCC, 7 IPK, 8 DRVC

## MSP430
designator U?  (value not drawn)
footprint msp430
pins: 0 GND, 1 GND, 2 VEREF+, 3 VREF+, 4 P1.0, 5 P1.1, 6 P1.2, 7 P1.3, 8 P1.4, 9 P1.5, 10 P1.6, 11 P1.7, 12 P2.0, 13 P2.1, 14 P2.2, 15 P2.3, 16 P2.4, 17 P2.5, 18 P2.6, 19 P2.7, 20 P3.0, 21 P3.1, 22 P3.2, 23 P3.3, 24 P3.4, 25 P3.5, 26 P3.6, 27 P3.7, 28 P4.0, 29 P4.1, 30 P4.2, 31 P4.3, 32 P4.4, 33 P4.5, 34 P4.6, 35 P4.7, 36 P5.0, 37 P5.1, 38 P5.2, 39 P5.3, 40 P5.4, 41 P5.5, 42 P5.6, 43 P5.7, 44 P6.0, 45 P6.1, 46 P6.2, 47 P6.3, 48 P6.4, 49 P6.5, 50 P6.6, 51 P6.7, 52 3.3V, 53 3.3V, 54 5V, 55 5V
text: MSP430F149最小系统

## MSP430F149
designator U?, comment MSP430F147/8/9
footprint PQFP64
pins: 1 DVcc (power), 2 P6.3/A3 (io), 3 P6.4/A4 (io), 4 P6.5/A5 (io), 5 P6.6/A6 (io), 6 P6.7/A7 (io), 7 Vref+, 8 Xin (in), 9 Xout (out), 10 VeRef+, 11 VRef-/VeRef-, 12 P1.0/TACLK (io), 13 P1.1/TA0 (io), 14 P1.2/TA1 (io), 15 P1.3/TA2 (io), 16 P1.4/SMCLK (io), 17 P1.5/TA0 (io), 18 P1.6/TA1 (io), 19 P1.7/TA2 (io), 20 P2.0/ACLK (io), 21 P2.1/TAINCLK (io), 22 P2.2/CAOUT/TA0 (io), 23 P2.3/CA0/TA1 (io), 24 P2.4/CA1/TA2 (io), 25 P2.5/ROSC (io), 26 P2.6/ADC12CLK (io), 27 P2.7/TA0 (io), 28 P3.0/STE0 (io), 29 P3.1/SIMO0 (io), 30 P3.2/SOMI0 (io), 31 P3.3/UCLK0 (io), 32 P3.4/UTXD0 (io), 33 P3.5/URXD0 (io), 34 P3.6/UTXD1 (io), 35 P3.7/URXD1 (io), 36 P4.0/TB0 (io), 37 P4.1/TB1 (io), 38 P4.2/TB2 (io), 39 P4.3/TB3 (io), 40 P4.4/TB4 (io), 41 P4.5/TB5 (io), 42 P4.6/TB6 (io), 43 P4.7/TBCLK (io), 44 P5.0/STE1 (io), 45 P5.1/SIMO1 (io), 46 P5.2/SOMI1 (io), 47 P5.3/UCLK1 (io), 48 P5.4/MCLK (io), 49 P5.5/SMCLK (io), 50 P5.6/ACLK (io), 51 P5.7/TBOUTH (io), 52 XT2out (out), 53 XT2in (in), 54 TDO/TDI (out), 55 TDI/TCLK (in), 56 TMS (in), 57 TCK (in), 58 ~{RS}T/NMI, 59 P6.0/A0 (io), 60 P6.1/A1 (io), 61 P6.2/A2 (io), 62 AVss (power), 63 DVss (power), 64 AVcc (power)

## MT48LC8M8A2TG
designator U?, comment SDRAM  (value not drawn)
footprint MT48LC8M8A2TG
pins: 1 VDD, 2 DQ0, 3 VDDQ, 4 NC, 5 DQ1, 6 VSSQ, 7 NC, 8 DQ2, 9 VDDQ, 10 NC, 11 DQ3, 12 VSSQ, 13 NC, 14 VDD, 15 NC, 16 ~{WE}, 17 ~{CAS}, 18 ~{RAS}, 19 ~{CS}, 20 BA0, 21 BA1, 22 A10, 23 A0, 24 A1, 25 A2, 26 A3, 27 VDD, 28 VSS, 29 A4, 30 A5, 31 A6, 32 A7, 33 A8, 34 A9, 35 A11, 36 NC, 37 CKE, 38 CLK, 39 DQM, 40 NC, 41 VSS, 42 NC, 43 VDDQ, 44 DQ4, 45 NC, 46 VSSQ, 47 DQ5, 48 NC, 49 VDDQ, 50 DQ6, 51 NC, 52 VSSQ, 53 DQ7, 54 VSS

## NPN
designator Q?, comment 8050
NPN Transistor
footprint SOT23-3
pins: 1 B "Base", 2 E "Emitter", 3 C "Collector"

## NPN_2
designator Q?
footprint SOT23-3
pins: 1 B, 2 E, 3 C

## OPA690
designator U?
footprint SIOC8
pins: 2 IN- (in), 3 IN+ (in), 4 V- (power), 6 OUT (out), 7 V+ (power), 8 ~{DI}S (power)
text: OPA

## PADS
designator *
footprint pads
pins: 1

## PAM3101
designator PAM?  (value not drawn)
footprint SOT23-5
pins: 1 VIN, 2 GND, 3 EN, 4 BYP, 5 VOUT

## PNP
designator Q?
PNP Bipolar Transistor; Published: 8-Jun-2000; LatestRevisionDate: 17-Jul-2002; LatestRevisionNote: Re-released for DXP Platform.; PackageReference: SOT-23B; Publisher: Altium Limited; Code_JEDEC: SOT-23
footprint PNP
footprint SOT23-3
pins: 1 B, 2 E, 3 C

## RELAY-DPDT
designator K?
footprint RELAY-DPDT
pins: 1, 2, 3, 4, 5, 6, 7, 8

## RES
designator R?, comment 103
Resistor; Value: 1K; Published: 8-Jun-2000; Revision: July-2002: Re-released for DXP Platform.; Publisher: Altium Limited
footprint 0805
footprint 0603
pins: 1, 2
2 alternate drawings of the same symbol

## RES4
designator R?
footprint RES4
pins: 1, 2, 3, 4, 5, 6, 7, 8

## Res8
designator R?  value 10K
Isolated Resistor Network; Published: 24-Mar-1999; LatestRevisionDate: 17-Jul-2002; LatestRevisionNote: Re-released for DXP Platform.; PackageReference: SO-16; Publisher: Altium Limited
pins: 1, 2, 3, 4, 5, 6, 7, 8, 9, 10, 11, 12, 13, 14, 15, 16

## RPot
designator RP?  value 10K
Potentiometer; Sim Note: Enter the Resistance value and the set point into parameter fields.; Set Position: 0.5; Published: 8-Jun-2000; LatestRevisionDate: 17-Jul-2002; LatestRevisionNote: Re-released for DXP Platform.; PackageReference: VR5; Publisher: Altium Limited
simulation model POT (Potentiometer)
footprint RPot (Potentiometer; 3 Leads)
footprint Rpot_2
pins: 1 TOP, 2 TAP, 3 BOT
1 alternate drawing of the same symbol

## RT9167A-33PB
designator U*
footprint SOT23-5
pins: 1 VI, 2 G, 3 EN, 4 ADJ, 5 VO

## RT9293BGJ6
designator U?
DC-DC可调升压IC
footprint SOT23-6
pins: 1 LX, 2 GND, 3 FB, 4 EN, 5 VOUT, 6 VIN

## SD_CARD
designator SD?, comment SD CARD
footprint SD_CARD
pins: 1 CD/D3, 2 CMD, 3 GND, 4 VDD, 5 CLK, 6 GND, 7 D1, 8 D0, 9 D2
2 alternate drawings of the same symbol

## SEG
designator S?
footprint SEG (LED, 7-Segment Display, 14.2 mm, RHD; 10 Leads; Row Space 15.24 mm; Pitch 2.54 mm)
pins: 1 e "Anode", 2 d "Anode", 3 K "Common Cathode", 4 c "Anode", 5 DP "Anode", 6 b "Anode", 7 a "Anode", 8 K "Common Cathode", 9 f "Anode", 10 g "Anode"

## SEG7_4
designator S?  (value not drawn)
4位共阴数码管
footprint SEG7_4
pins: 1 e, 2 d, 3 h, 4 c, 5 g, 6 COM1, 7 b, 8 COM2, 9 COM3, 10 f, 11 a, 12 COM4
text: S4; S3; S2; S1

## SN74LVC4245A
designator *
footprint R-PDSO-G24
pins: 1 VCCA(5V), 2 DIR, 3 A1, 4 A2, 5 A3, 6 A4, 7 A5, 8 A6, 9 A7, 10 A8, 11 GND, 12 GND, 13 GND, 14 B8, 15 B7, 16 B6, 17 B5, 18 B4, 19 B3, 20 B2, 21 B1, 22 ~{OE}, 23 VCCB(3.3V), 24 VCCB(3.3V)

## SOURCE
designator P?
LatestRevisionDate: 17-Jul-2002; LatestRevisionNote: Re-released for DXP Platform.; Publisher: Altium Limited
footprint source (DC Power Jack, 2.5mm, KLD Series, PCB Mount)
pins: 1 (power), 2 (power), 3 (power)

## SPEAK
designator LS?
Electrical Bell; Published: 24-Mar-1999; LatestRevisionDate: 17-Jul-2002; LatestRevisionNote: Re-released for DXP Platform.; PackageReference: PIN2; Publisher: Altium Limited
footprint SPEAK
pins: 1 A, 2 B

## STC12C5A16AD
designator *
footprint 40P6
footprint 40P6_2 (MCU_P40)
pins: 1 P1.0/ADC0/CLKOUT2, 2 P1.1/ADC1, 3 P1.2/ADC2/ECI/RxD2, 4 P1.3/ADC3/CCP0/TxD2, 5 P1.4/ADC4/CCP1/~{SS}, 6 P1.5/ADC5/MOSI, 7 P1.6/ADC6/MISO, 8 P1.7/ADC7/SCLK, 9 P4.7/RST, 10 P3.0/RxD, 11 P3.1/TxD, 12 P3.2/~{INT0}, 13 P3.3/~{INT1}, 14 P3.4/T0/~{INT}/CLKOUT0, 15 P3.54/T1/~{INT}/CLKOUT1, 16 P3.6/~{WR}, 17 P3.7/~{RD}, 18 XTAL2, 19 XTAL1, 20 GND, 21 P2.0/AD8, 22 P2.1/AD9, 23 P2.2/AD10, 24 P2.3/AD11, 25 P2.4/AD12, 26 P2.5/AD13, 27 P2.6/AD14, 28 P2.7/AD15, 29 P4.4/NA, 30 P4.5/ALE, 31 P4.6/EX_LVD/RST2, 32 P0.7/AD7, 33 P0.6/AD6, 34 P0.5/AD5, 35 P0.4/AD4, 36 P0.3/AD3, 37 P0.2/AD2, 38 P0.1/AD1, 39 P0.0/AD0, 40 VCC

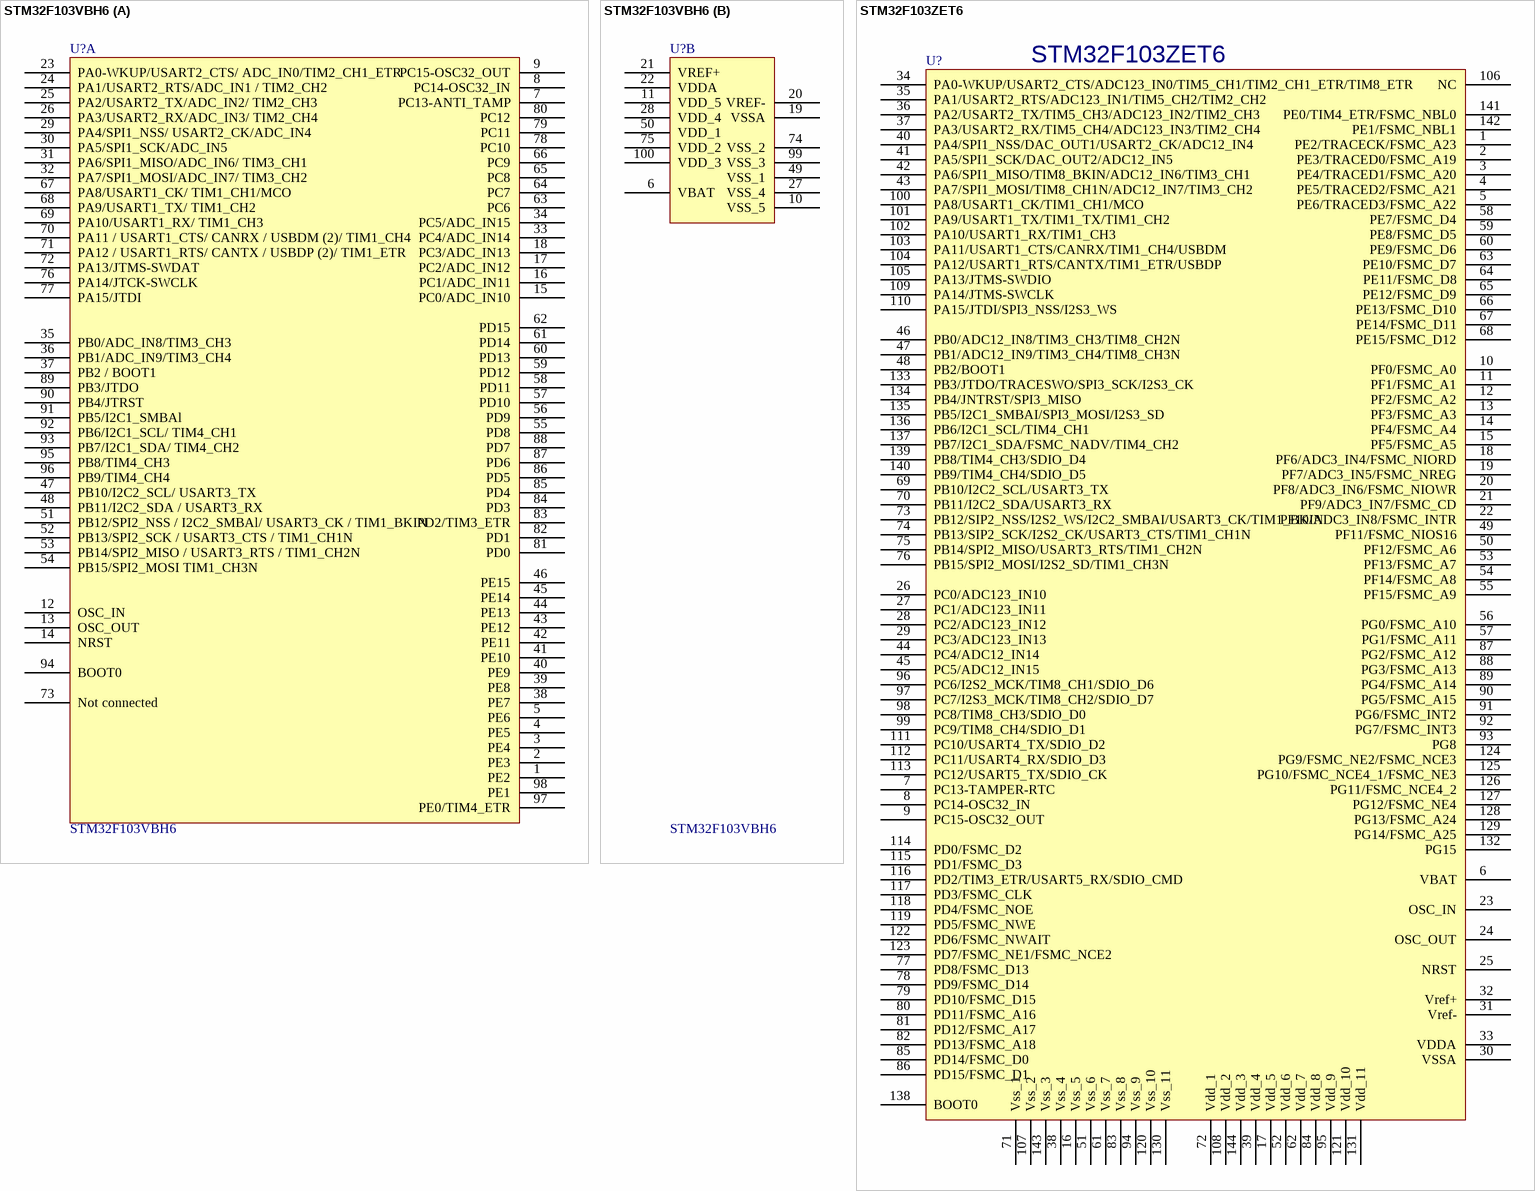
[diagram p4: symbols STM32F103VBH6 to STM32F103ZET6]

## STM32F103VBH6
designator U?
part A pins: 1 PE2, 2 PE3, 3 PE4, 4 PE5, 5 PE6, 7 PC13-ANTI_TAMP, 8 PC14-OSC32_IN, 9 PC15-OSC32_OUT, 12 OSC_IN, 13 OSC_OUT, 14 NRST, 15 PC0/ADC_IN10, 16 PC1/ADC_IN11, 17 PC2/ADC_IN12, 18 PC3/ADC_IN13, 23 PA0-WKUP/USART2_CTS/
ADC_IN0/TIM2_CH1_ETR, 24 PA1/USART2_RTS/ADC_IN1
/
TIM2_CH2, 25 PA2/USART2_TX/ADC_IN2/
TIM2_CH3, 26 PA3/USART2_RX/ADC_IN3/
TIM2_CH4, 29 PA4/SPI1_NSS/
USART2_CK/ADC_IN4, 30 PA5/SPI1_SCK/ADC_IN5, 31 PA6/SPI1_MISO/ADC_IN6/
TIM3_CH1, 32 PA7/SPI1_MOSI/ADC_IN7/
TIM3_CH2, 33 PC4/ADC_IN14, 34 PC5/ADC_IN15, 35 PB0/ADC_IN8/TIM3_CH3, 36 PB1/ADC_IN9/TIM3_CH4, 37 PB2 / BOOT1, 38 PE7, 39 PE8, 40 PE9, 41 PE10, 42 PE11, 43 PE12, 44 PE13, 45 PE14, 46 PE15, 47 PB10/I2C2_SCL/
USART3_TX, 48 PB11/I2C2_SDA /
USART3_RX, 51 PB12/SPI2_NSS /
I2C2_SMBAl/
USART3_CK /
TIM1_BKIN, 52 PB13/SPI2_SCK /
USART3_CTS /
TIM1_CH1N, 53 PB14/SPI2_MISO /
USART3_RTS /
TIM1_CH2N, 54 PB15/SPI2_MOSI
TIM1_CH3N, 55 PD8, 56 PD9, 57 PD10, 58 PD11, 59 PD12, 60 PD13, 61 PD14, 62 PD15, 63 PC6, 64 PC7, 65 PC8, 66 PC9, 67 PA8/USART1_CK/
TIM1_CH1/MCO, 68 PA9/USART1_TX/
TIM1_CH2, 69 PA10/USART1_RX/
TIM1_CH3, 70 PA11 / USART1_CTS/
CANRX / USBDM (2)/
TIM1_CH4, 71 PA12 / USART1_RTS/
CANTX / USBDP (2)/
TIM1_ETR, 72 PA13/JTMS-SWDAT, 73 Not connected, 76 PA14/JTCK-SWCLK, 77 PA15/JTDI, 78 PC10, 79 PC11, 80 PC12, 81 PD0, 82 PD1, 83 PD2/TIM3_ETR, 84 PD3, 85 PD4, 86 PD5, 87 PD6, 88 PD7, 89 PB3/JTDO, 90 PB4/JTRST, 91 PB5/I2C1_SMBAl, 92 PB6/I2C1_SCL/
TIM4_CH1, 93 PB7/I2C1_SDA/
TIM4_CH2, 94 BOOT0, 95 PB8/TIM4_CH3, 96 PB9/TIM4_CH4, 97 PE0/TIM4_ETR, 98 PE1
part B pins: 6 VBAT, 10 VSS_5, 11 VDD_5, 19 VSSA, 20 VREF-, 21 VREF+, 22 VDDA, 27 VSS_4, 28 VDD_4, 49 VSS_1, 50 VDD_1, 74 VSS_2, 75 VDD_2, 99 VSS_3, 100 VDD_3

## STM32F103ZET6
designator U?
footprint TQFP144
pins: 1 PE2/TRACECK/FSMC_A23, 2 PE3/TRACED0/FSMC_A19, 3 PE4/TRACED1/FSMC_A20, 4 PE5/TRACED2/FSMC_A21, 5 PE6/TRACED3/FSMC_A22, 6 VBAT, 7 PC13-TAMPER-RTC, 8 PC14-OSC32_IN, 9 PC15-OSC32_OUT, 10 PF0/FSMC_A0, 11 PF1/FSMC_A1, 12 PF2/FSMC_A2, 13 PF3/FSMC_A3, 14 PF4/FSMC_A4, 15 PF5/FSMC_A5, 16 Vss_5, 17 Vdd_5, 18 PF6/ADC3_IN4/FSMC_NIORD, 19 PF7/ADC3_IN5/FSMC_NREG, 20 PF8/ADC3_IN6/FSMC_NIOWR, 21 PF9/ADC3_IN7/FSMC_CD, 22 PF10/ADC3_IN8/FSMC_INTR, 23 OSC_IN, 24 OSC_OUT, 25 NRST, 26 PC0/ADC123_IN10, 27 PC1/ADC123_IN11, 28 PC2/ADC123_IN12, 29 PC3/ADC123_IN13, 30 VSSA, 31 Vref-, 32 Vref+, 33 VDDA, 34 PA0-WKUP/USART2_CTS/ADC123_IN0/TIM5_CH1/TIM2_CH1_ETR/TIM8_ETR, 35 PA1/USART2_RTS/ADC123_IN1/TIM5_CH2/TIM2_CH2, 36 PA2/USART2_TX/TIM5_CH3/ADC123_IN2/TIM2_CH3, 37 PA3/USART2_RX/TIM5_CH4/ADC123_IN3/TIM2_CH4, 38 Vss_4, 39 Vdd_4, 40 PA4/SPI1_NSS/DAC_OUT1/USART2_CK/ADC12_IN4, 41 PA5/SPI1_SCK/DAC_OUT2/ADC12_IN5, 42 PA6/SPI1_MISO/TIM8_BKIN/ADC12_IN6/TIM3_CH1, 43 PA7/SPI1_MOSI/TIM8_CH1N/ADC12_IN7/TIM3_CH2, 44 PC4/ADC12_IN14, 45 PC5/ADC12_IN15, 46 PB0/ADC12_IN8/TIM3_CH3/TIM8_CH2N, 47 PB1/ADC12_IN9/TIM3_CH4/TIM8_CH3N, 48 PB2/BOOT1, 49 PF11/FSMC_NIOS16, 50 PF12/FSMC_A6, 51 Vss_6, 52 Vdd_6, 53 PF13/FSMC_A7, 54 PF14/FSMC_A8, 55 PF15/FSMC_A9, 56 PG0/FSMC_A10, 57 PG1/FSMC_A11, 58 PE7/FSMC_D4, 59 PE8/FSMC_D5, 60 PE9/FSMC_D6, 61 Vss_7, 62 Vdd_7, 63 PE10/FSMC_D7, 64 PE11/FSMC_D8, 65 PE12/FSMC_D9, 66 PE13/FSMC_D10, 67 PE14/FSMC_D11, 68 PE15/FSMC_D12, 69 PB10/I2C2_SCL/USART3_TX, 70 PB11/I2C2_SDA/USART3_RX, 71 Vss_1, 72 Vdd_1, 73 PB12/SIP2_NSS/I2S2_WS/I2C2_SMBAI/USART3_CK/TIM1_BKIN, 74 PB13/SIP2_SCK/I2S2_CK/USART3_CTS/TIM1_CH1N, 75 PB14/SPI2_MISO/USART3_RTS/TIM1_CH2N, 76 PB15/SPI2_MOSI/I2S2_SD/TIM1_CH3N, 77 PD8/FSMC_D13, 78 PD9/FSMC_D14, 79 PD10/FSMC_D15, 80 PD11/FSMC_A16, 81 PD12/FSMC_A17, 82 PD13/FSMC_A18, 83 Vss_8, 84 Vdd_8, 85 PD14/FSMC_D0, 86 PD15/FSMC_D1, 87 PG2/FSMC_A12, 88 PG3/FSMC_A13, 89 PG4/FSMC_A14, 90 PG5/FSMC_A15, 91 PG6/FSMC_INT2, 92 PG7/FSMC_INT3, 93 PG8, 94 Vss_9, 95 Vdd_9, 96 PC6/I2S2_MCK/TIM8_CH1/SDIO_D6, 97 PC7/I2S3_MCK/TIM8_CH2/SDIO_D7, 98 PC8/TIM8_CH3/SDIO_D0, 99 PC9/TIM8_CH4/SDIO_D1, 100 PA8/USART1_CK/TIM1_CH1/MCO, 101 PA9/USART1_TX/TIM1_TX/TIM1_CH2, 102 PA10/USART1_RX/TIM1_CH3, 103 PA11/USART1_CTS/CANRX/TIM1_CH4/USBDM, 104 PA12/USART1_RTS/CANTX/TIM1_ETR/USBDP, 105 PA13/JTMS-SWDIO, 106 NC, 107 Vss_2, 108 Vdd_2, 109 PA14/JTMS-SWCLK, 110 PA15/JTDI/SPI3_NSS/I2S3_WS, 111 PC10/USART4_TX/SDIO_D2, 112 PC11/USART4_RX/SDIO_D3, 113 PC12/USART5_TX/SDIO_CK, 114 PD0/FSMC_D2, 115 PD1/FSMC_D3, 116 PD2/TIM3_ETR/USART5_RX/SDIO_CMD, 117 PD3/FSMC_CLK, 118 PD4/FSMC_NOE, 119 PD5/FSMC_NWE, 120 Vss_10, 121 Vdd_10, 122 PD6/FSMC_NWAIT, 123 PD7/FSMC_NE1/FSMC_NCE2, 124 PG9/FSMC_NE2/FSMC_NCE3, 125 PG10/FSMC_NCE4_1/FSMC_NE3, 126 PG11/FSMC_NCE4_2, 127 PG12/FSMC_NE4, 128 PG13/FSMC_A24, 129 PG14/FSMC_A25, 130 Vss_11, 131 Vdd_11, 132 PG15, 133 PB3/JTDO/TRACESWO/SPI3_SCK/I2S3_CK, 134 PB4/JNTRST/SPI3_MISO, 135 PB5/I2C1_SMBAI/SPI3_MOSI/I2S3_SD, 136 PB6/I2C1_SCL/TIM4_CH1, 137 PB7/I2C1_SDA/FSMC_NADV/TIM4_CH2, 138 BOOT0, 139 PB8/TIM4_CH3/SDIO_D4, 140 PB9/TIM4_CH4/SDIO_D5, 141 PE0/TIM4_ETR/FSMC_NBL0, 142 PE1/FSMC_NBL1, 143 Vss_3, 144 Vdd_3

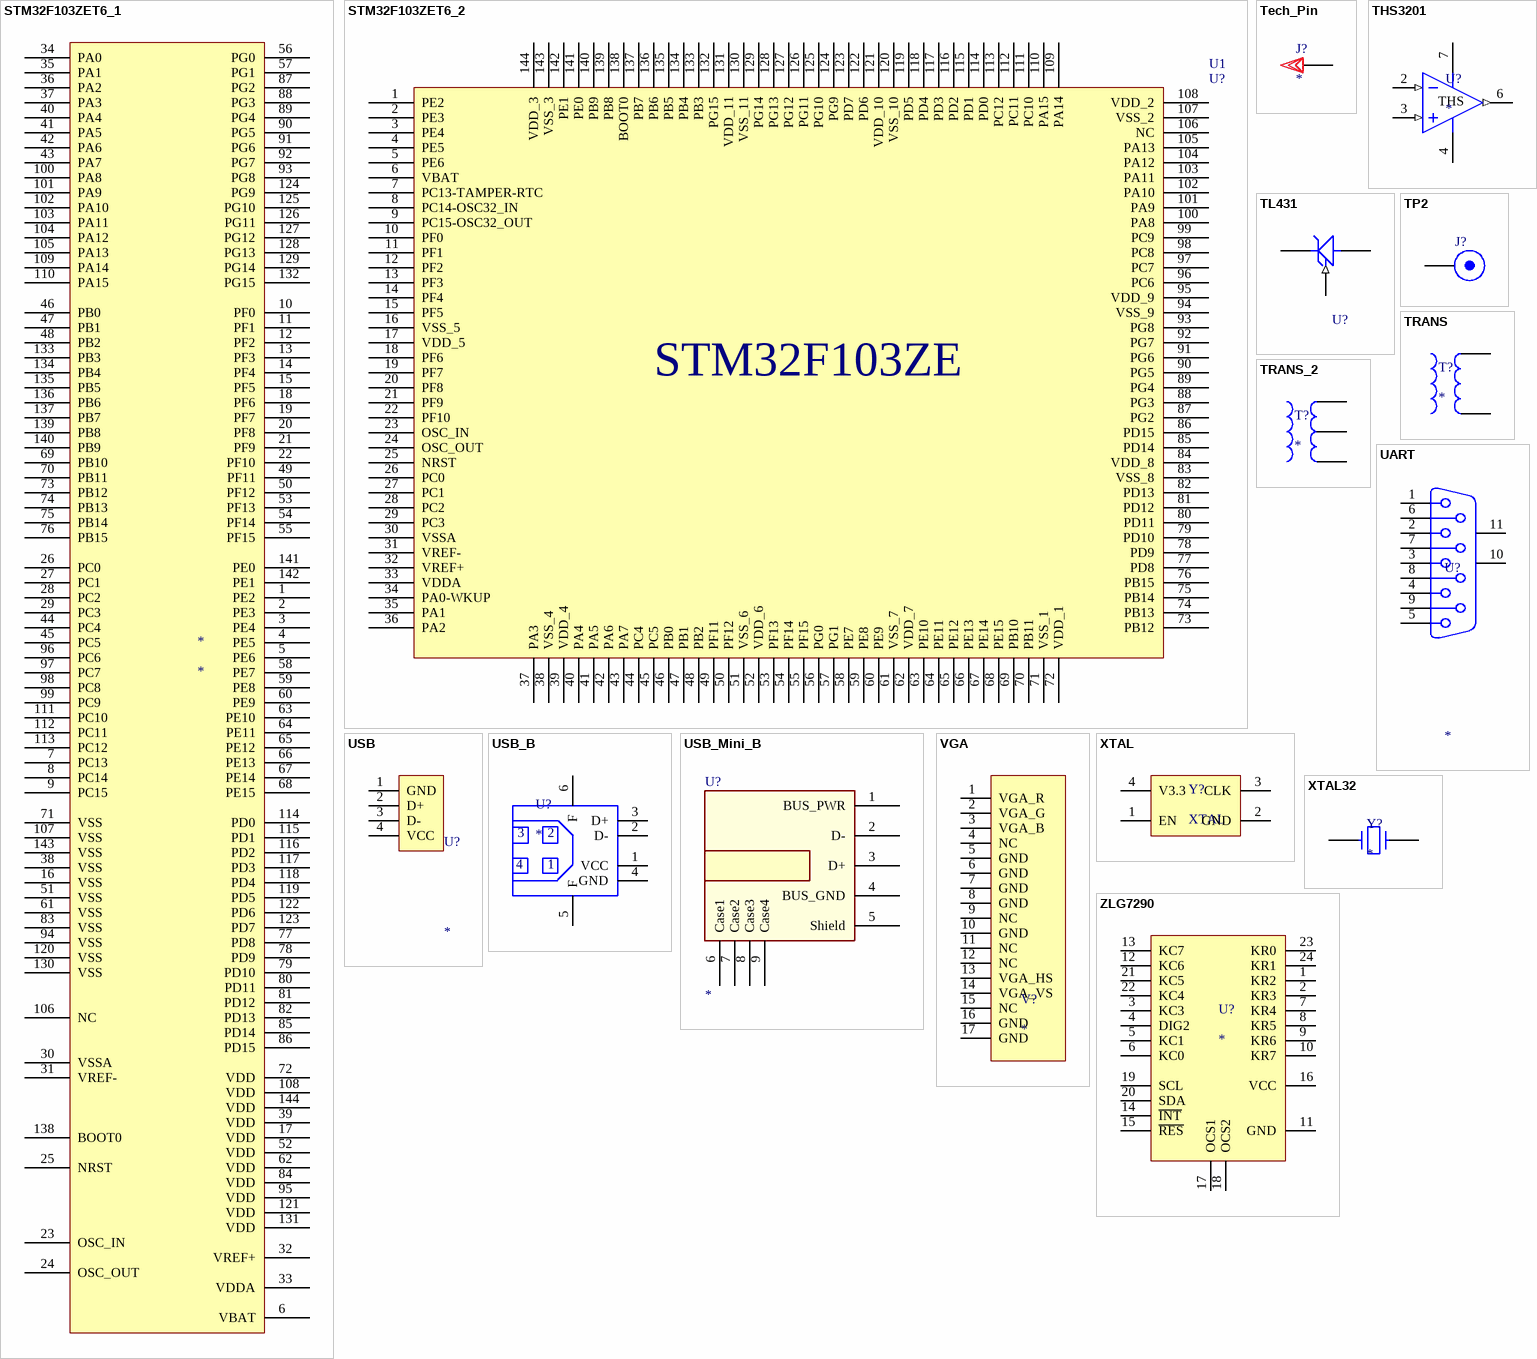
[diagram p5: symbols STM32F103ZET6_1 to ZLG7290]

## STM32F103ZET6_1
designator *
footprint tqfp144
pins: 1 PE2, 2 PE3, 3 PE4, 4 PE5, 5 PE6, 6 VBAT, 7 PC13, 8 PC14, 9 PC15, 10 PF0, 11 PF1, 12 PF2, 13 PF3, 14 PF4, 15 PF5, 16 VSS, 17 VDD, 18 PF6, 19 PF7, 20 PF8, 21 PF9, 22 PF10, 23 OSC_IN, 24 OSC_OUT, 25 NRST, 26 PC0, 27 PC1, 28 PC2, 29 PC3, 30 VSSA, 31 VREF-, 32 VREF+, 33 VDDA, 34 PA0, 35 PA1, 36 PA2, 37 PA3, 38 VSS, 39 VDD, 40 PA4, 41 PA5, 42 PA6, 43 PA7, 44 PC4, 45 PC5, 46 PB0, 47 PB1, 48 PB2, 49 PF11, 50 PF12, 51 VSS, 52 VDD, 53 PF13, 54 PF14, 55 PF15, 56 PG0, 57 PG1, 58 PE7, 59 PE8, 60 PE9, 61 VSS, 62 VDD, 63 PE10, 64 PE11, 65 PE12, 66 PE13, 67 PE14, 68 PE15, 69 PB10, 70 PB11, 71 VSS, 72 VDD, 73 PB12, 74 PB13, 75 PB14, 76 PB15, 77 PD8, 78 PD9, 79 PD10, 80 PD11, 81 PD12, 82 PD13, 83 VSS, 84 VDD, 85 PD14, 86 PD15, 87 PG2, 88 PG3, 89 PG4, 90 PG5, 91 PG6, 92 PG7, 93 PG8, 94 VSS, 95 VDD, 96 PC6, 97 PC7, 98 PC8, 99 PC9, 100 PA8, 101 PA9, 102 PA10, 103 PA11, 104 PA12, 105 PA13, 106 NC, 107 VSS, 108 VDD, 109 PA14, 110 PA15, 111 PC10, 112 PC11, 113 PC12, 114 PD0, 115 PD1, 116 PD2, 117 PD3, 118 PD4, 119 PD5, 120 VSS, 121 VDD, 122 PD6, 123 PD7, 124 PG9, 125 PG10, 126 PG11, 127 PG12, 128 PG13, 129 PG14, 130 VSS, 131 VDD, 132 PG15, 133 PB3, 134 PB4, 135 PB5, 136 PB6, 137 PB7, 138 BOOT0, 139 PB8, 140 PB9, 141 PE0, 142 PE1, 143 VSS, 144 VDD

## STM32F103ZET6_2
designator U?, comment U1
footprint TQFP144
pins: 1 PE2, 2 PE3, 3 PE4, 4 PE5, 5 PE6, 6 VBAT, 7 PC13-TAMPER-RTC, 8 PC14-OSC32_IN, 9 PC15-OSC32_OUT, 10 PF0, 11 PF1, 12 PF2, 13 PF3, 14 PF4, 15 PF5, 16 VSS_5, 17 VDD_5, 18 PF6, 19 PF7, 20 PF8, 21 PF9, 22 PF10, 23 OSC_IN, 24 OSC_OUT, 25 NRST, 26 PC0, 27 PC1, 28 PC2, 29 PC3, 30 VSSA, 31 VREF-, 32 VREF+, 33 VDDA, 34 PA0-WKUP, 35 PA1, 36 PA2, 37 PA3, 38 VSS_4, 39 VDD_4, 40 PA4, 41 PA5, 42 PA6, 43 PA7, 44 PC4, 45 PC5, 46 PB0, 47 PB1, 48 PB2, 49 PF11, 50 PF12, 51 VSS_6, 52 VDD_6, 53 PF13, 54 PF14, 55 PF15, 56 PG0, 57 PG1, 58 PE7, 59 PE8, 60 PE9, 61 VSS_7, 62 VDD_7, 63 PE10, 64 PE11, 65 PE12, 66 PE13, 67 PE14, 68 PE15, 69 PB10, 70 PB11, 71 VSS_1, 72 VDD_1, 73 PB12, 74 PB13, 75 PB14, 76 PB15, 77 PD8, 78 PD9, 79 PD10, 80 PD11, 81 PD12, 82 PD13, 83 VSS_8, 84 VDD_8, 85 PD14, 86 PD15, 87 PG2, 88 PG3, 89 PG4, 90 PG5, 91 PG6, 92 PG7, 93 PG8, 94 VSS_9, 95 VDD_9, 96 PC6, 97 PC7, 98 PC8, 99 PC9, 100 PA8, 101 PA9, 102 PA10, 103 PA11, 104 PA12, 105 PA13, 106 NC, 107 VSS_2, 108 VDD_2, 109 PA14, 110 PA15, 111 PC10, 112 PC11, 113 PC12, 114 PD0, 115 PD1, 116 PD2, 117 PD3, 118 PD4, 119 PD5, 120 VSS_10, 121 VDD_10, 122 PD6, 123 PD7, 124 PG9, 125 PG10, 126 PG11, 127 PG12, 128 PG13, 129 PG14, 130 VSS_11, 131 VDD_11, 132 PG15, 133 PB3, 134 PB4, 135 PB5, 136 PB6, 137 PB7, 138 BOOT0, 139 PB8, 140 PB9, 141 PE0, 142 PE1, 143 VSS_3, 144 VDD_3
text: STM32F103ZE

## Tech_Pin
designator J?
footprint Tech_Pin
pins: 1

## THS3201
designator U?
footprint sioc8
pins: 2 IN- (in), 3 IN+ (in), 4 V- (power), 6 OUT (out), 7 V+ (power)
text: THS

## TL431
designator U?  (value not drawn)
footprint TL431 (TO, Flat Index; 3 In-Line, Axial Leads; Body Dia. 4.5mm; Leads 0.51 x 0.48 mm (max))
pins: 1 REF (in), 2 A, 3 K

## TP2
designator J?
footprint DRIL3.5-2
pins: 1

## TRANS
designator T?
footprint Trans_12_2
footprint TRANS_9_2 (2 x 9 V)
footprint TRANS_15_2
pins: 1, 2

## TRANS_2
designator T?
footprint trans_15_3
pins: 1, 2, 3

## UART
designator U?
Serial communication
footprint UART
pins: 1, 2, 3, 4, 5, 6, 7, 8, 9, 10 MH1, 11 MH2

## USB
designator U?
Data line
footprint USB
pins: 1 GND, 2 D+, 3 D-, 4 VCC

## USB_B
designator U?
footprint usb_b
pins: 1 VCC, 2 D-, 3 D+, 4 GND, 5 F, 6 F

## USB_Mini_B
designator U?
Model: 54819-0578; OrderNr: 418-0172; Maker: Molex; Distributor: RS; Price: 4,29 (5)
footprint USB_MINI_B_SMD_MM
pins: 1 BUS_PWR, 2 D-, 3 D+, 4 BUS_GND, 5 Shield, 6 Case1, 7 Case2, 8 Case3, 9 Case4

## VGA
designator V?
footprint VGA
pins: 1 VGA_R, 2 VGA_G, 3 VGA_B, 4 NC, 5 GND, 6 GND, 7 GND, 8 GND, 9 NC, 10 GND, 11 NC, 12 NC, 13 VGA_HS, 14 VGA_VS, 15 NC, 16 GND, 17 GND

## XTAL
designator Y?
footprint XTAL (贴片 5*7晶振)
pins: 1 EN, 2 GND, 3 CLK, 4 V3.3

## XTAL32
designator Y?
footprint XTAL32
pins: 1, 2

## ZLG7290
designator U?
footprint SOP24
pins: 1 KR2, 2 KR3, 3 KC3, 4 DIG2, 5 KC1, 6 KC0, 7 KR4, 8 KR5, 9 KR6, 10 KR7, 11 GND, 12 KC6, 13 KC7, 14 ~{INT}, 15 ~{RES}, 16 VCC, 17 OCS1, 18 OCS2, 19 SCL, 20 SDA, 21 KC5, 22 KC4, 23 KR0, 24 KR1